# Altium schematic symbol library ZZQ_Schlib.SchLib: 86 symbols (part 2 of 3)
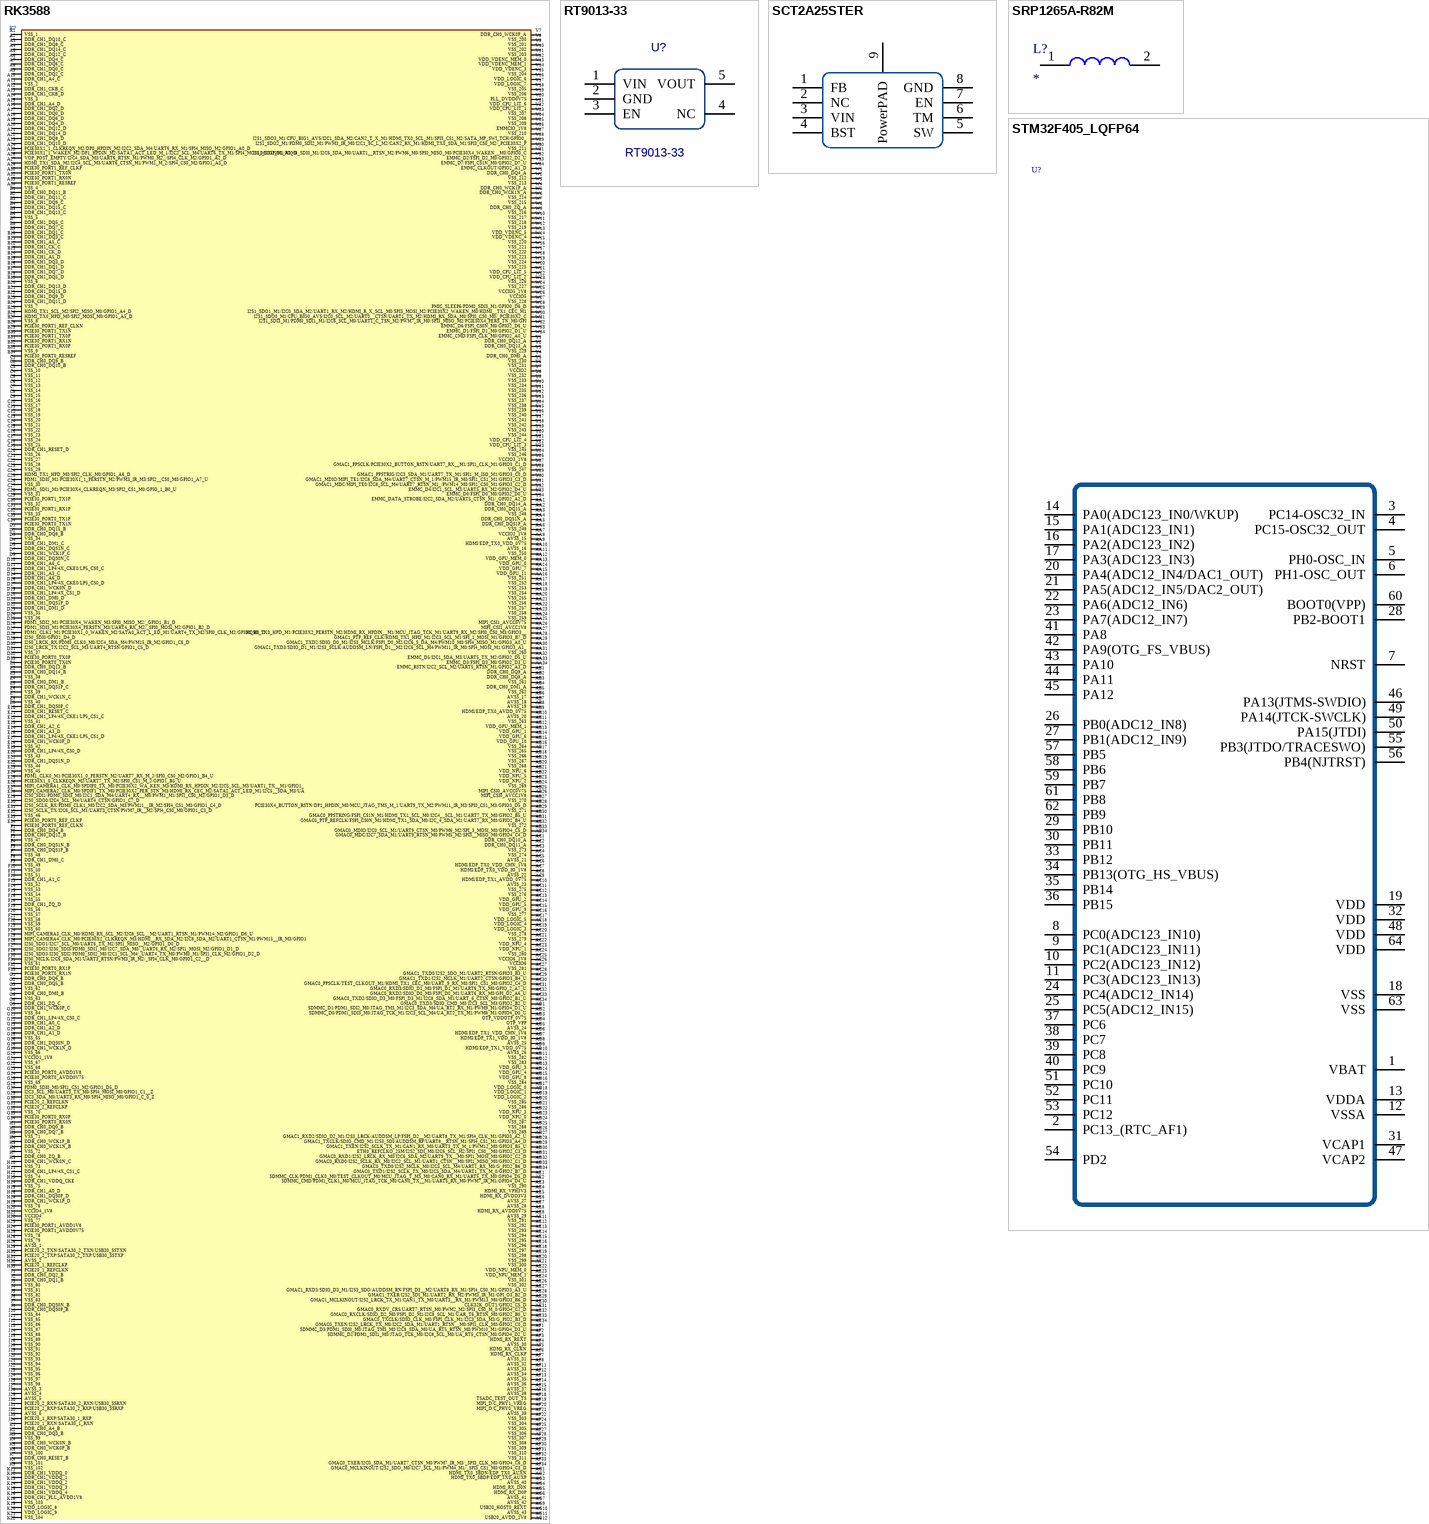
[diagram p9: symbols RK3588 to STM32F405_LQFP64]

## RK3588
designator IC?
Integrated Circuit; Manufacturer_Name: Rockchip; Manufacturer_Part_Number: RK3588; Description: low power; Datasheet Link: https://www.cnx-software.com/pdf/Rockchip%C2%A0RK3588%C2%A0Datasheet%C2%A0V0.1-20210727.pdf; Height: 1.89mm
footprint BGA1088C65P34X34_2300X2300X189
pins: A1 VSS_1, A2 DDR_CH1_DQ10_C, A3 DDR_CH1_DQ8_C, A4 DDR_CH1_DQ14_C, A5 DDR_CH1_DQ12_C, A6 DDR_CH1_DQ4_C, A7 DDR_CH1_DQ6_C, A8 DDR_CH1_DQ0_C, A9 DDR_CH1_DQ2_C, A10 DDR_CH1_A4_C, A11 VSS_2, A12 DDR_CH1_CKB_C, A13 DDR_CH1_CKB_D, A14 VSS_3, A15 DDR_CH1_A4_D, A16 DDR_CH1_DQ2_D, A17 DDR_CH1_DQ0_D, A18 DDR_CH1_DQ6_D, A19 DDR_CH1_DQ4_D, A20 DDR_CH1_DQ12_D, A21 DDR_CH1_DQ14_D, A22 DDR_CH1_DQ8_D, A23 DDR_CH1_DQ10_D, A24 PCIE30X1_1_CLKREQN_M2/DP0_HPDIN_M2/I2C2_SDA_M4/UART6_RX_M1/SPI4_MISO_M2/GPIO1_A0_D, A25 PCIE30X1_1_WAKEN_M2/DP1_HPDIN_M2/SATA1_ACT_LED_M_1/I2C2_SCL_M4/UART6_TX_M1/SPI4_MOSI_M2/GPIO1_A1_D, A26 VOP_POST_EMPTY/I2C4_SDA_M3/UART6_RTSN_M1/PWM0_M2_/SPI4_CLK_M2/GPIO1_A2_D, A27 HDMI_TX1_SDA_M2/I2C4_SCL_M3/UART6_CTSN_M1/PWM1_M_2/SPI4_CS0_M2/GPIO1_A3_D, A28 PCIE30_PORT1_REF_CLKP, A30 PCIE30_PORT1_TX0N, A32 PCIE30_PORT1_RX0N, A33 PCIE30_PORT1_RESREF, A34 VSS_4, AA1 DDR_CH0_DQ14_A, AA2 DDR_CH0_DQ15_A, AA3 VSS_248, AA4 DDR_CH0_DQS1N_A, AA5 DDR_CH0_DQS1P_A, AA6 VSS_249, AA7 VCCIO2_1V8, AA8 AVSS_15, AA9 HDMI/EDP_TX0_VDD_0V75, AA10 AVSS_16, AA11 VSS_250, AA12 VDD_GPU_MEM_0, AA13 VDD_GPU_0, AA14 VDD_GPU_7, AA15 VDD_GPU_11, AA16 VSS_251, AA17 VSS_252, AA18 VSS_253, AA19 VSS_254, AA20 VSS_255, AA21 VSS_256, AA22 VSS_257, AA23 VSS_258, AA24 VSS_259, AA25 MIPI_CSI1_AVCC0V75, AA26 MIPI_CSI1_AVCC1V8, AA27 HDMI_TX0_HPD_M1/PCIE30X2_PERSTN_M2/HDMI_RX_HPDIN__M1/MCU_JTAG_TCK_M1/UART9_RX_M2/SPI0_CS0_M3/GPIO3__, AA28 GMAC1_PTP_REF_CLK/HDMI_TX1_HPD_M1/I2C3_SCL_M1/SPI_1_MOSI_M1/GPIO3_B7_D, AA29 GMAC1_TXD2/SDIO_D0_M1/I2S3_MCLK/FSPI_D0_M2/I2C6_S_DA_M4/PWM10_M0/SPI4_MISO_M1/GPIO3_A0_U, AA30 GMAC1_TXD3/SDIO_D1_M1/I2S3_SCLK/AUDDSM_LN/FSPI_D1__M2/I2C6_SCL_M4/PWM11_IR_M0/SPI4_MOSI_M1/GPIO3_A1_, AA31 VSS_260, AA32 EMMC_D5/I2C1_SDA_M3/UART5_TX_M2/GPIO2_D5_U, AA33 EMMC_D3/FSPI_D3_M0/GPIO2_D3_U, AA34 EMMC_RSTN/I2C2_SCL_M2/UART5_RTSN_M1/GPIO2_A3_D, AB1 DDR_CH0_DQ9_A, AB2 DDR_CH0_DQ8_A, AB3 VSS_261, AB4 DDR_CH0_DM1_A, AB5 VSS_262, AB6 AVSS_17, AB7 AVSS_18, AB8 AVSS_19, AB9 HDMI/EDP_TX0_AVDD_0V75, AB10 AVSS_20, AB11 VSS_263, AB12 VDD_GPU_MEM_1, AB13 VDD_GPU_1, AB14 VDD_GPU_6, AB15 VDD_GPU_10, AB16 VSS_264, AB17 VSS_265, AB18 VSS_266, AB19 VSS_267, AB20 VSS_268, AB21 VDD_NPU_6, AB22 VDD_NPU_5, AB23 VDD_NPU_2, AB24 VSS_269, AB25 MIPI_CSI0_AVCC0V75, AB26 MIPI_CSI0_AVCC1V8, AB27 VSS_270, AB28 PCIE30X4_BUTTON_RSTN/DP1_HPDIN_M0/MCU_JTAG_TMS_M_1/UART9_TX_M2/PWM11_IR_M3/SPI0_CS1_M3/GPIO3_D5_D, AB29 VSS_271, AB30 GMAC0_PPSTRING/FSPI_CS1N_M1/HDMI_TX1_SCL_M0/I2C4__SCL_M1/UART7_TX_M0/GPIO2_B5_U, AB31 GMAC0_PTP_REFCLK/FSPI_CS0N_M1/HDMI_TX1_SDA_M0/I2C_4_SDA_M1/UART7_RX_M0/GPIO2_B4_U, AB32 VSS_272, AB33 GMAC0_MDIO/I2C0_SCL_M1/UART9_CTSN_M0/PWM6_M2/SPI_3_MOSI_M0/GPIO4_C5_D, AB34 GMAC0_MDC/I2C7_SDA_M1/UART9_RTSN_M0/PWM5_M2/SPI3__MISO_M0/GPIO4_C4_D, AC1 DDR_CH0_DQ10_A, AC2 DDR_CH0_DQ11_A, AC3 VSS_273, AC4 VSS_274, AC5 AVSS_21, AC6 HDMI/EDP_TX0_VDD_CMN_1V8, AC7 HDMI/EDP_TX0_VDD_IO_1V8, AC8 AVSS_22, AC9 HDMI/EDP_TX1_AVDD_0V75, AC10 AVSS_23, AC11 VSS_275, AC12 VSS_276, AC13 VDD_GPU_2, AC14 VDD_GPU_5, AC15 VDD_GPU_9, AC16 VSS_277, AC17 VDD_LOGIC_5, AC18 VDD_LOGIC_4, AC19 VDD_LOGIC_3, AC20 VSS_278, AC21 VSS_279, AC22 VDD_NPU_4, AC23 VDD_NPU_1, AC24 VSS_280, AC25 VCCIO6_1V8, AC26 VCCIO6, AC27 VSS_281, AC28 GMAC1_TXD0/I2S2_SDO_M1/UART2_RTSN/GPIO3_B3_U, AC29 GMAC1_TXD1/I2S2_MCLK_M1/UART2_CTSN/GPIO3_B4_U, AC30 GMAC0_PPSCLK/TEST_CLKOUT_M1/HDMI_TX1_CEC_M0/UART_9_RX_M0/SPI1_CS1_M0/GPIO2_C4_D, AC31 GMAC0_RXD3/SDIO_D1_M0/FSPI_D1_M1/UART6_TX_M0/GPIO_2_A7_U, AC32 GMAC0_RXD2/SDIO_D0_M0/FSPI_D0_M1/UART6_RX_M0/GPI_O2_A6_U, AC33 GMAC0_TXD2/SDIO_D3_M0/FSPI_D3_M1/I2C8_SDA_M1/UART_6_CTSN_M0/GPIO2_B1_U, AC34 GMAC0_TXD3/SDIO_CMD_M0/I2C3_SCL_M3/GPIO2_B2_U, AD1 SDMMC_D1/PDM1_SDI2_M0/JTAG_TMS_M1/I2C3_SDA_M4/UA_RT2_RX_M1/PWM9_M1/GPIO4_D1_U, AD2 SDMMC_D0/PDM1_SDI3_M0/JTAG_TCK_M1/I2C3_SCL_M4/UA_RT2_TX_M1/PWM8_M1/GPIO4_D0_U, AD3 OTP_VDDOTP_0V75, AD4 OTP_VPP, AD5 AVSS_24, AD6 HDMI/EDP_TX1_VDD_CMN_1V8, AD7 HDMI/EDP_TX1_VDD_IO_1V8, AD8 AVSS_25, AD9 HDMI/EDP_TX1_VDD_0V75, AD10 AVSS_26, AD11 VSS_282, AD12 VSS_283, AD13 VDD_GPU_3, AD14 VDD_GPU_4, AD15 VDD_GPU_8, AD16 VSS_284, AD17 VDD_LOGIC_0, AD18 VDD_LOGIC_1, AD19 VDD_LOGIC_2, AD20 VSS_285, AD21 VSS_286, AD22 VDD_NPU_3, AD23 VDD_NPU_0, AD24 VSS_287, AD25 VSS_288, AD26 VSS_289, AD27 GMAC1_RXD2/SDIO_D2_M1/I2S3_LRCK/AUDDSM_LP/FSPI_D2__M2/UART8_TX_M1/SPI4_CLK_M1/GPIO3_A2_U, AD28 GMAC1_TXCLK/SDIO_CMD_M1/I2S3_SDI/AUDDSM_RP/UART8__RTSN_M1/SPI4_CS1_M1/GPIO3_A4_D, AD29 GMAC1_TXEN/I2S2_SCLK_TX_M1/CAN1_RX_M0/UART3_TX_M_1/PWM12_M0/GPIO3_B5_U, AD30 ETH0_REFCLKO_25M/I2S2_SDI_M0/I2C6_SCL_M2/SPI1_CS0__M0/GPIO2_C3_D, AD31 GMAC0_RXD1/I2S2_LRCK_RX_M0/I2C6_SDA_M2/UART9_TX__M0/SPI1_MOSI_M0/GPIO2_C2_D, AD32 GMAC0_RXD0/I2S2_SCLK_RX_M0/I2C2_SCL_M1/UART1_CTSN__M0/SPI1_MISO_M0/GPIO2_C1_D, AD33 GMAC0_TXD0/I2S2_MCLK_M0/I2C5_SCL_M4/UART1_RX_M0/G_PIO2_B6_D, AD34 GMAC0_TXD1/I2S2_SCLK_TX_M0/I2C5_SDA_M4/UART1_TX_M_0/GPIO2_B7_D, AE1 SDMMC_CLK/PDM1_CLK0_M0/TEST_CLKOUT_M0/MCU_JTAG_T_MS_M0/CAN0_RX_M1/UART5_TX_M0/GPIO4_D5_D, AE2 SDMMC_CMD/PDM1_CLK1_M0/MCU_JTAG_TCK_M0/CAN0_TX__M1/UART5_RX_M0/PWM7_IR_M1/GPIO4_D4_U, AE3 VSS_290, AE4 HDMI_RX_VPH3V3, AE5 HDMI_RX_DVDD3V3, AE6 AVSS_27, AE7 AVSS_28, AE8 HDMI_RX_AVDD0V75, AE9 AVSS_29, AE11 VSS_291, AE12 VSS_292, AE13 VSS_293, AE14 VSS_294, AE15 VSS_295, AE16 VSS_296, AE18 VSS_297, AE19 VSS_298, AE20 VSS_299, AE21 VSS_300, AE22 VDD_NPU_MEM_0, AE23 VDD_NPU_MEM_1, AE24 VSS_301, AE26 VSS_302, AE27 GMAC1_RXD3/SDIO_D3_M1/I2S3_SDO/AUDDSM_RN/FSPI_D3__M2/UART8_RX_M1/SPI4_CS0_M1/GPIO3_A3_U, AE28 GMAC1_TXER/I2S2_SDI_M1/UART2_RX_M2/PWM3_IR_M1/GPI_O3_B2_D, AE29 GMAC1_MCLKINOUT/I2S2_LRCK_TX_M1/CAN1_TX_M0/UART3__RX_M1/PWM13_M0/GPIO3_B6_D, AE30 CLK32K_OUT1/GPIO2_C5_D, AE31 GMAC0_RXDV_CRS/UART7_RTSN_M0/PWM2_M2/SPI3_CS0_M_0/GPIO4_C2_D, AE32 GMAC0_RXCLK/SDIO_D2_M0/FSPI_D2_M1/I2C8_SCL_M1/UAR_T6_RTSN_M0/GPIO2_B0_U, AE33 GMAC0_TXCLK/SDIO_CLK_M0/FSPI_CLK_M1/I2C3_SDA_M3/G_PIO2_B3_D, AE34 GMAC0_TXEN/I2S2_LRCK_TX_M0/I2C2_SDA_M1/UART1_RTSN__M0/SPI1_CLK_M0/GPIO2_C0_D, AF1 SDMMC_D3/PDM1_SDI0_M0/JTAG_TMS_M0/I2C8_SDA_M0/UA_RT5_RTSN_M0/PWM10_M1/GPIO4_D3_U, AF2 SDMMC_D2/PDM1_SDI1_M0/JTAG_TCK_M0/I2C8_SCL_M0/UA_RT5_CTSN_M0/GPIO4_D2_U, AF3 HDMI_RX_REXT, AF4 AVSS_30, AF5 HDMI_RX_CLKN, AF6 HDMI_RX_CLKP, AF7 AVSS_31, AF8 AVSS_32, AF11 AVSS_33, AF12 AVSS_34, AF13 AVSS_35, AF14 AVSS_36, AF15 AVSS_37, AF16 AVSS_38, AF18 TSADC_TEST_OUT_TS, AF19 MIPI_D/C_PHY1_VREG, AF20 MIPI_D/C_PHY0_VREG, AF21 AVSS_39, AF22 VSS_303, AF24 VSS_304, AF25 VSS_305, AF27 VSS_306, AF28 VSS_307, AF29 VSS_308, AF30 VSS_309, AF31 VSS_310, AF32 VSS_311, AF33 GMAC0_TXER/I2C0_SDA_M1/UART7_CTSN_M0/PWM7_IR_M3/_SPI3_CLK_M0/GPIO4_C6_D, AF34 GMAC0_MCLKINOUT/I2S2_SDO_M0/I2C7_SCL_M1/PWM4_M1/_SPI3_CS1_M0/GPIO4_C3_D, AG1 HDMI_TX0_SBDN/EDP_TX0_AUXN, AG2 HDMI_TX0_SBDP/EDP_TX0_AUXP, AG3 AVSS_40, AG4 HDMI_RX_D0N, AG5 HDMI_RX_D0P, AG6 AVSS_41, AG7 AVSS_42, AG9 USB20_HOST0_REXT, AG10 AVSS_43, AG11 USB20_AVDD_1V8, AG12 AVSS_44, AG13 TYPEC1_DP1_VDDH_1V8, AG14 TYPEC0_DP0_VDDH_1V8, AG15 AVSS_45, AG16 TYPEC1_DP1_REXT, AG18 AVSS_46, AG19 MIPI_D/C_PHY1_VDD, AG20 MIPI_D/C_PHY0_VDD, AG21 AVSS_47, AG22 AVSS_48, AG23 CIF_D13/PCIE20X1_2_PERSTN_M0/HDMI_RX_CEC_M1/UART4__TX_M1/PWM9_M2/SPI0_MISO_M3/GPIO3_D1_D, AG24 CIF_D15/PCIE30X2_WAKEN_M2/HDMI_RX_SDA_M1/I2C7_SDA__M2/UART9_CTSN_M2/PWM10_M2/SPI0_CLK_M3/GPIO3_D3__D, AG25 CIF_D14/PCIE30X2_CLKREQN_M2/HDMI_RX_SCL_M1/I2C7_S_CL_M2/UART9_RTSN_M2/SPI0_MOSI_M3/GPIO3_D2_D, AG26 CIF_D10/PCIE30X4_PERSTN_M2/HDMI_TX1_SCL_M1/SPI3_MI_SO_M3/GPIO3_C6_U, AG28 GMAC1_RXD1/I2S2_SCLK_RX_M1/MIPI_CAMERA3_CLK_M1/P_WM9_M0/GPIO3_B0_U, AG29 GMAC1_RXD0/MIPI_CAMERA2_CLK_M1/PWM8_M0/GPIO3_A7__U, AG30 VSS_312, AG31 MIPI_CSI1_D0P, AG32 MIPI_CSI1_D0N, AG33 MIPI_CSI0_D0P, AG34 MIPI_CSI0_D0N, AH2 HDMI_TX0_D3N/EDP_TX0_D3N, AH3 HDMI_TX0_D3P/EDP_TX0_D3P, AH4 AVSS_49, AH5 HDMI_RX_D1N, AH6 HDMI_RX_D1P, AH8 AVSS_50, AH9 USB20_HOST1_REXT, AH10 USB20_DVDD_0V75, AH11 AVSS_51, AH12 AVSS_52, AH13 TYPEC1_DP1_VDD_0V85, AH14 TYPEC0_DP0_VDDA_0V85, AH15 AVSS_53, AH16 TYPEC0_DP0_REXT, AH18 SARADC_AVDD_1V8, AH19 MIPI_D/C_PHY1_VDD_1V2, AH20 MIPI_D/C_PHY0_VDD_1V2, AH21 AVSS_54, AH22 AVSS_55, AH23 AVSS_56, AH24 CIF_D12/PCIE20X1_2_WAKEN_M0/HDMI_TX0_SDA_M2/I2C5__SDA_M0/UART4_RX_M1/PWM8_M2/SPI3_CLK_M3/GPIO3_D0__U, AH25 CIF_D9/FSPI_CS1N_M2/PCIE30X4_WAKEN_M2/HDMI_TX1_SDA_M1/CAN2_TX_M0/UART5_RX_M1/SPI3_CS1_M3/GPIO3_C5_U, AH26 CIF_D8/FSPI_CS0N_M2/PCIE30X4_CLKREQN_M2/HDMI_TX1_C_EC_M2/CAN2_RX_M0/UART5_TX_M1/SPI3_CS0_M3/GPIO3_C4, AH27 ETH1_REFCLKO_25M/MIPI_CAMERA1_CLK_M1/I2C4_SCL_M0/_GPIO3_A6_D, AH29 GMAC1_RXDV_CRS/I2S2_LRCK_RX_M1/MIPI_CAMERA4_CLK__M1/UART2_TX_M2/PWM2_M1/GPIO3_B1_D, AH30 GMAC1_RXCLK/SDIO_CLK_M1/MIPI_CAMERA0_CLK_M1/FSPI__CLK_M2/I2C4_SDA_M0/UART8_CTSN_M1/GPIO3_A5_D, AH31 MIPI_CSI1_D1P, AH32 MIPI_CSI1_D1N, AH33 MIPI_CSI0_D1P, AH34 MIPI_CSI0_D1N, AJ1 HDMI_TX0_D0N/EDP_TX0_D0N, AJ2 HDMI_TX0_D0P/EDP_TX0_D0P, AJ3 AVSS_57, AJ4 HDMI_RX_D2N, AJ5 HDMI_RX_D2P, AJ7 AVSS_58, AJ8 AVSS_59, AJ9 AVSS_60, AJ10 USB20_AVDD_3V3, AJ11 AVSS_61, AJ12 AVSS_62, AJ13 TYPEC1_DP1_VDDA_0V85, AJ14 TYPEC0_DP0_VDD_0V85, AJ15 AVSS_63, AJ16 AVSS_64, AJ18 AVSS_65, AJ19 MIPI_D/C_PHY1_VDD_1V8, AJ20 MIPI_D/C_PHY0_VDD_1V8, AJ21 AVSS_66, AJ22 AVSS_67, AJ23 AVSS_68, AJ24 CIF_D11/PCIE20X1_2_CLKREQN_M0/HDMI_TX0_SCL_M2/I2C5__SCL_M0/SPI3_MOSI_M3/GPIO3_C7_U, AJ25 BT1120_D14/PCIE20X1_2_WAKEN_M1/HDMI_TX0_SDA_M0/I2_C8_SCL_M3/SPI3_CS0_M1/GPIO4_C0_U, AJ26 BT1120_D11/PCIE30X4_WAKEN_M1/HDMI_RX_CEC_M0/SATA1__ACT_LED_M0/UART9_RX_M1/PWM12_M1/SPI3_MISO_M1/GPI_, AJ27 BT1120_D12/PCIE30X4_PERSTN_M1/HDMI_RX_HPDIN_M0/SA_TA0_ACT_LED_M0/I2C5_SCL_M1/PWM13_M1/SPI3_MOSI_M1/_, AJ28 BT1120_D13/PCIE20X1_2_CLKREQN_M1/HDMI_TX0_SCL_M0/I_2C5_SDA_M1/SPI3_CLK_M1/GPIO4_B7_U, AJ30 VSS_313, AJ31 MIPI_CSI1_CLK0P, AJ32 MIPI_CSI1_CLK0N, AJ33 MIPI_CSI0_CLK0P, AJ34 MIPI_CSI0_CLK0N, AK2 HDMI_TX0_D1N/EDP_TX0_D1N, AK3 HDMI_TX0_D1P/EDP_TX0_D1P, AK4 AVSS_69, AK5 AVSS_70, AK6 USB20_HOST0_DP, AK7 AVSS_71, AK8 TYPEC1_USB20_OTG_ID, AK9 TYPEC1_USB20_OTG_DP, AK10 AVSS_72, AK11 AVSS_73, AK12 AVSS_74, AK13 AVSS_75, AK14 AVSS_76, AK15 SARADC_IN5, AK16 SARADC_IN2, AK17 SARADC_IN7, AK18 MIPI_DPHY1_RX_D0P/MIPI_CPHY1_RX_TRIO0_B, AK19 MIPI_DPHY1_RX_D1P/MIPI_CPHY1_RX_TRIO1_A, AK20 MIPI_DPHY1_RX_CLKP/MIPI_CPHY1_RX_TRIO1_C, AK21 MIPI_DPHY1_RX_D2P/MIPI_CPHY1_RX_TRIO2_B, AK22 MIPI_DPHY1_RX_D3P/NO_USE, AK23 AVSS_77, AK24 BT1120_D15/SPDIF1_TX_M2/PCIE20X1_2_PERSTN_M1/HDMI__TX0_CEC_M0/I2C8_SDA_M3/PWM6_M1/SPI3_CS1_M1/GPIO4_, AK25 CIF_HREF/BT1120_D8/I2S1_SDO1_M0/PCIE30X1_1_BUTTON__RSTN/I2C7_SCL_M3/UART8_RTSN_M0/PWM14_M1/SPI0_CS0_, AK26 CIF_CLKIN/BT1120_CLKOUT/I2S1_SDI3_M0/PCIE30X2_PERST_N_M1/I2C6_SDA_M3/UART8_TX_M0/SPI2_CS1_M1/GPIO4_B, AK27 CIF_D5/BT1120_D5/I2S1_SDI0_M0/PCIE30X1_0_PERSTN_M1/_I2C3_SDA_M2/UART3_TX_M2/SPI2_MOSI_M1/GPIO4_A5_D, AK28 VSS_314_1, AK29 VSS_314_2, AK30 CIF_D0/BT1120_D0/I2S1_MCLK_M0/PCIE30X1_1_CLKREQN_M_1/UART9_RTSN_M1/SPI0_MISO_M1/GPIO4_A0_D, AK31 MIPI_CSI1_D2P, AK32 MIPI_CSI1_D2N, AK33 MIPI_CSI0_D2P, AK34 MIPI_CSI0_D2N, AL1 HDMI_TX0_D2N/EDP_TX0_D2N, AL2 HDMI_TX0_D2P/EDP_TX0_D2P, AL3 AVSS_78, AL4 AVSS_79, AL5 AVSS_80, AL6 USB20_HOST0_DM, AL7 USB20_HOST1_DP, AL8 TYPEC1_USB20_VBUSDET, AL9 TYPEC1_USB20_OTG_DM, AL10 TYPEC1_SBU1/DP1_AUXP, AL11 AVSS_81, AL12 TYPEC0_USB20_OTG_DP, AL13 AVSS_82, AL14 TYPEC0_USB20_OTG_ID, AL15 TYPEC0_SBU1/DP0_AUXP, AL16 SARADC_IN1, AL17 SARADC_IN6, AL18 MIPI_DPHY1_RX_D0N/MIPI_CPHY1_RX_TRIO0_A, AL19 MIPI_DPHY1_RX_D1N/MIPI_CPHY1_RX_TRIO0_C, AL20 MIPI_DPHY1_RX_CLKN/MIPI_CPHY1_RX_TRIO1_B, AL21 MIPI_DPHY1_RX_D2N/MIPI_CPHY1_RX_TRIO2_A, AL22 MIPI_DPHY1_RX_D3N/MIPI_CPHY1_RX_TRIO2_C, AL23 AVSS_83, AL24 MIPI_CAMERA0_CLK_M0/SPDIF1_TX_M1/I2S1_SDO0_M0/PCIE_30X1_0_BUTTON_RSTN/SATA2_ACT_LED_M0/I2C6_SCL_M3/U, AL25 VSS_316, AL26 CIF_CLKOUT/BT1120_D10/I2S1_SDO3_M0/PCIE30X4_CLKREQ_N_M1/DP0_HPDIN_M0/SPDIF0_TX_M1/UART9_TX_M1/PWM11_, AL27 CIF_D6/BT1120_D6/I2S1_SDI1_M0/PCIE30X2_CLKREQN_M1/I_2C5_SCL_M2/UART3_RX_M2/SPI2_CLK_M1/GPIO4_A6_D, AL28 CIF_D4/BT1120_D4/I2S1_LRCK_RX_M0/PCIE30X1_0_WAKEN__M1/I2C3_SCL_M2/UART0_RX_M2/SPI2_MISO_M1/GPIO4_A4_, AL29 CIF_D3/BT1120_D3/I2S1_SCLK_RX_M0/PCIE30X1_0_CLKREQ_N_M1/UART0_TX_M2/GPIO4_A3_D, AL30 CIF_D1/BT1120_D1/I2S1_SCLK_TX_M0/PCIE30X1_1_WAKEN__M1/UART9_CTSN_M1/SPI0_MOSI_M1/GPIO4_A1_D, AL31 MIPI_CSI1_D3P, AL32 MIPI_CSI1_D3N, AL33 MIPI_CSI0_D3P, AL34 MIPI_CSI0_D3N, AM2 HDMI/EDP_TX0_REXT, AM3 HDMI_TX1_D3P/EDP_TX1_D3P, AM4 AVSS_84, AM5 HDMI_TX1_D1P/EDP_TX1_D1P, AM7 USB20_HOST1_DM, AM8 AVSS_85, AM9 AVSS_86, AM10 TYPEC1_SBU2/DP1_AUXN, AM12 TYPEC0_USB20_OTG_DM, AM14 TYPEC0_USB20_VBUSDET, AM15 TYPEC0_SBU2/DP0_AUXN, AM16 SARADC_IN0_BOOT, AM17 SARADC_IN4, AM18 AVSS_87, AM20 AVSS_88, AM22 AVSS_89, AM23 AVSS_90, AM24 AVSS_91, AM25 CIF_VSYNC/BT1120_D9/I2S1_SDO2_M0/PCIE20X1_2_BUTTON__RSTN/I2C7_SDA_M3/UART8_CTSN_M0/PWM15_IR_M1/CAN1_, AM26 AVSS_92, AM27 CIF_D7/BT1120_D7/I2S1_SDI2_M0/PCIE30X2_WAKEN_M1/I2_C5_SDA_M2/SPI2_CS0_M1/GPIO4_A7_D, AM28 AVSS_93, AM29 CIF_D2/BT1120_D2/I2S1_LRCK_TX_M0/PCIE30X1_1_PERSTN__M1/SPI0_CLK_M1/GPIO4_A2_D, AM30 VSS_317, AM31 MIPI_CSI1_CLK1P, AM32 MIPI_CSI1_CLK1N, AM33 MIPI_CSI0_CLK1P, AM34 MIPI_CSI0_CLK1N, AN1 HDMI/EDP_TX1_REXT, AN2 HDMI_TX1_SBDP/EDP_TX1_AUXP, AN3 HDMI_TX1_D3N/EDP_TX1_D3N, AN4 HDMI_TX1_D0P/EDP_TX1_D0P, AN5 HDMI_TX1_D1N/EDP_TX1_D1N, AN6 HDMI_TX1_D2P/EDP_TX1_D2P, AN7 AVSS_94, AN8 TYPEC1_SSRX1P/DP1_TX0P, AN9 TYPEC1_SSTX1N/DP1_TX1N, AN10 TYPEC1_SSRX2P/DP1_TX2P, AN11 TYPEC1_SSTX2N/DP1_TX3N, AN12 AVSS_95, AN13 TYPEC0_SSRX1P/DP0_TX0P, AN14 TYPEC0_SSTX1N/DP0_TX1N, AN15 TYPEC0_SSRX2P/DP0_TX2P, AN16 TYPEC0_SSTX2N/DP0_TX3N, AN17 SARADC_IN3, AN18 MIPI_DPHY1_TX_D0P/MIPI_CPHY1_TX_TRIO0_B, AN19 MIPI_DPHY1_TX_D1P/MIPI_CPHY1_TX_TRIO1_A, AN20 MIPI_DPHY1_TX_CLKP/MIPI_CPHY1_TX_TRIO1_C, AN21 MIPI_DPHY1_TX_D2P/MIPI_CPHY1_TX_TRIO2_B, AN22 MIPI_DPHY1_TX_D3P/NO_USE, AN23 AVSS_96, AN24 MIPI_DPHY0_TX_D0P/MIPI_CPHY0_TX_TRIO0_B, AN25 MIPI_DPHY0_TX_D1P/MIPI_CPHY0_TX_TRIO1_A, AN26 MIPI_DPHY0_TX_CLKP/MIPI_CPHY0_TX_TRIO1_C, AN27 MIPI_DPHY0_TX_D2P/MIPI_CPHY0_TX_TRIO2_B, AN28 MIPI_DPHY0_TX_D3P/NO_USE, AN29 MIPI_DPHY0_RX_D0P/MIPI_CPHY0_RX_TRIO0_B, AN30 MIPI_DPHY0_RX_D1P/MIPI_CPHY0_RX_TRIO1_A, AN31 AVSS_97, AN32 MIPI_DPHY0_RX_CLKP/MIPI_CPHY0_RX_TRIO1_C, AN33 MIPI_DPHY0_RX_D2P/MIPI_CPHY0_RX_TRIO2_B, AN34 MIPI_DPHY0_RX_D3P/NO_USE, AP1 AVSS_98, AP2 HDMI_TX1_SBDN/EDP_TX1_AUXN, AP4 HDMI_TX1_D0N/EDP_TX1_D0N, AP6 HDMI_TX1_D2N/EDP_TX1_D2N, AP7 TYPEC1_USB20_OTG1_REXT, AP8 TYPEC1_SSRX1N/DP1_TX0N, AP9 TYPEC1_SSTX1P/DP1_TX1P, AP10 TYPEC1_SSRX2N/DP1_TX2N, AP11 TYPEC1_SSTX2P/DP1_TX3P, AP12 TYPEC0_USB20_OTG0_REXT, AP13 TYPEC0_SSRX1N/DP0_TX0N, AP14 TYPEC0_SSTX1P/DP0_TX1P, AP15 TYPEC0_SSRX2N/DP0_TX2N, AP16 TYPEC0_SSTX2P/DP0_TX3P, AP17 AVSS_99, AP18 MIPI_DPHY1_TX_D0N/MIPI_CPHY1_TX_TRIO0_A, AP19 MIPI_DPHY1_TX_D1N/MIPI_CPHY1_TX_TRIO0_C, AP20 MIPI_DPHY1_TX_CLKN/MIPI_CPHY1_TX_TRIO1_B, AP21 MIPI_DPHY1_TX_D2N/MIPI_CPHY1_TX_TRIO2_A, AP22 MIPI_DPHY1_TX_D3N/MIPI_CPHY1_TX_TRIO2_C, AP23 AVSS_100, AP24 MIPI_DPHY0_TX_D0N/MIPI_CPHY0_TX_TRIO0_A, AP25 MIPI_DPHY0_TX_D1N/MIPI_CPHY0_TX_TRIO0_C, AP26 MIPI_DPHY0_TX_CLKN/MIPI_CPHY0_TX_TRIO1_B, AP27 MIPI_DPHY0_TX_D2N/MIPI_CPHY0_TX_TRIO2_A, AP28 MIPI_DPHY0_TX_D3N/MIPI_CPHY0_TX_TRIO2_C, AP29 MIPI_DPHY0_RX_D0N/MIPI_CPHY0_RX_TRIO0_A, AP30 MIPI_DPHY0_RX_D1N/MIPI_CPHY0_RX_TRIO0_C, AP31 MIPI_DPHY0_RX_CLKN/MIPI_CPHY0_RX_TRIO1_B, AP32 MIPI_DPHY0_RX_D2N/MIPI_CPHY0_RX_TRIO2_A, AP33 MIPI_DPHY0_RX_D3N/MIPI_CPHY0_RX_TRIO2_C, AP34 AVSS_101, B1 DDR_CH0_DQ11_B, B2 DDR_CH1_DQ11_C, B3 DDR_CH1_DQ9_C, B4 DDR_CH1_DQ15_C, B5 DDR_CH1_DQ13_C, B6 VSS_5, B7 DDR_CH1_DQ5_C, B8 DDR_CH1_DQ7_C, B9 DDR_CH1_DQ1_C, B10 DDR_CH1_DQ3_C, B11 DDR_CH1_A5_C, B12 DDR_CH1_CK_C, B13 DDR_CH1_CK_D, B14 DDR_CH1_A5_D, B15 DDR_CH1_DQ3_D, B16 DDR_CH1_DQ1_D, B17 DDR_CH1_DQ7_D, B18 DDR_CH1_DQ5_D, B19 VSS_6, B20 DDR_CH1_DQ13_D, B21 DDR_CH1_DQ15_D, B22 DDR_CH1_DQ9_D, B23 DDR_CH1_DQ11_D, B24 VSS_7, B25 HDMI_TX1_SCL_M2/SPI2_MISO_M0/GPIO1_A4_D, B26 HDMI_TX0_HPD_M0/SPI2_MOSI_M0/GPIO1_A5_D, B27 VSS_8, B28 PCIE30_PORT1_REF_CLKN, B29 PCIE30_PORT1_TX1N, B30 PCIE30_PORT1_TX0P, B31 PCIE30_PORT1_RX1N, B32 PCIE30_PORT1_RX0P, B33 VSS_9, B34 PCIE30_PORT0_RESREF, C1 DDR_CH0_DQ9_B, C2 DDR_CH0_DQ10_B, C3 VSS_10, C4 VSS_11, C5 VSS_12, C6 VSS_13, C7 VSS_14, C8 VSS_15, C9 VSS_16, C10 VSS_17, C11 VSS_18, C12 VSS_19, C13 VSS_20, C14 VSS_21, C15 VSS_22, C16 VSS_23, C17 VSS_24, C18 VSS_25, C19 DDR_CH1_RESET_D, C20 VSS_26, C21 VSS_27, C22 VSS_28, C23 VSS_29, C24 HDMI_TX1_HPD_M0/SPI2_CLK_M0/GPIO1_A6_D, C25 PDM1_SDI0_M1/PCIE30X1_1_PERSTN_M2/PWM3_IR_M3/SPI2__CS0_M0/GPIO1_A7_U, C26 VSS_30, C27 PDM1_SDI1_M1/PCIE30X4_CLKREQN_M3/SPI2_CS1_M0/GPIO_1_B0_U, C28 VSS_31, C29 PCIE30_PORT1_TX1P, C30 VSS_32, C31 PCIE30_PORT1_RX1P, C32 VSS_33, C33 PCIE30_PORT0_TX1P, C34 PCIE30_PORT0_TX1N, D1 DDR_CH0_DQ15_B, D2 DDR_CH0_DQ8_B, D3 VSS_34, D4 DDR_CH1_DM1_C, D5 DDR_CH1_DQS1N_C, D7 DDR_CH1_WCK1P_C, D9 DDR_CH1_DQS0N_C, D10 DDR_CH1_A6_C, D11 DDR_CH1_LP4/4X_CKE0/LP5_CS0_C, D13 DDR_CH1_A3_C, D14 DDR_CH1_A6_D, D16 DDR_CH1_LP4/4X_CKE0/LP5_CS0_D, D17 DDR_CH1_WCK0N_D, D19 DDR_CH1_LP4/4X_CS1_D, D20 DDR_CH1_DM0_D, D21 DDR_CH1_DQS1P_D, D22 DDR_CH1_DM1_D, D23 VSS_35, D24 VSS_36, D25 PDM1_SDI2_M1/PCIE30X4_WAKEN_M3/SPI0_MISO_M2/_GPIO1_B1_D, D26 PDM1_SDI3_M1/PCIE30X4_PERSTN_M3/UART4_RX_M2/_SPI0_MOSI_M2/GPIO1_B2_D, D27 PDM1_CLK1_M1/PCIE30X1_0_WAKEN_M2/SATA0_ACT_L_ED_M1/UART4_TX_M2/SPI0_CLK_M2/GPIO1_B3_D, D28 I2S0_SDI0/GPIO1_D4_D, D29 I2S0_LRCK_RX/PDM0_CLK0_M0/I2C4_SDA_M4/PWM15_IR_M2/GPIO1_C6_D, D30 I2S0_LRCK_TX/I2C2_SCL_M3/UART4_RTSN/GPIO1_C5_D, D31 VSS_37, D32 PCIE30_PORT0_TX0P, D33 PCIE30_PORT0_TX0N, E1 DDR_CH0_DQ13_B, E2 DDR_CH0_DQ14_B, E3 VSS_38, E4 DDR_CH0_DM1_B, E5 DDR_CH1_DQS1P_C, E6 VSS_39, E7 DDR_CH1_WCK1N_C, E8 VSS_40, E9 DDR_CH1_DQS0P_C, E10 DDR_CH1_RESET_C, E11 DDR_CH1_LP4/4X_CKE1/LP5_CS1_C, E12 VSS_41, E13 DDR_CH1_A2_C, E14 DDR_CH1_A3_D, E16 DDR_CH1_LP4/4X_CKE1/LP5_CS1_D, E17 DDR_CH1_WCK0P_D, E18 VSS_42, E19 DDR_CH1_LP4/4X_CS0_D, E20 VSS_43, E21 DDR_CH1_DQS1N_D, E22 VSS_44, E23 VSS_45, E24 PDM1_CLK0_M1/PCIE30X1_0_PERSTN_M2/UART7_RX_M_2/SPI0_CS0_M2/GPIO1_B4_U, E25 PCIE30X1_0_CLKREQN_M2/UART7_TX_M2/SPI0_CS1_M_2/GPIO1_B5_U, E26 MIPI_CAMERA1_CLK_M0/SPDIF0_TX_M0/PCIE30X2_WA_KEN_M3/HDMI_RX_HPDIN_M2/I2C5_SCL_M3/UART1_TX__M1/GPIO1_, E27 MIPI_CAMERA2_CLK_M0/SPDIF1_TX_M0/PCIE30X2_PER_STN_M3/HDMI_RX_CEC_M2/SATA2_ACT_LED_M1/I2C5__SDA_M3/UA, E28 I2S0_SDI1/PDM0_SDI3_M0/I2C1_SDA_M4/UART4_RX__M0/PWM1_M1/SPI1_CS0_M2/GPIO1_D3_D, E29 I2S0_SDO0/I2C4_SCL_M4/UART4_CTSN/GPIO1_C7_D, E30 I2S0_SCLK_RX/PDM0_CLK1_M0/I2C2_SDA_M3/PWM11__IR_M2/SPI4_CS1_M0/GPIO1_C4_D, E31 I2S0_SCLK_TX/I2C6_SCL_M1/UART3_CTSN/PWM7_IR__M2/SPI4_CS0_M0/GPIO1_C3_D, E32 VSS_46, E33 PCIE30_PORT0_REF_CLKP, E34 PCIE30_PORT0_REF_CLKN, F1 DDR_CH0_DQ4_B, F2 DDR_CH0_DQ12_B, F3 VSS_47, F4 DDR_CH0_DQS1N_B, F5 DDR_CH0_DQS1P_B, F7 VSS_48, F8 DDR_CH1_DM0_C, F9 VSS_49, F10 VSS_50, F11 VSS_51, F12 DDR_CH1_A1_C, F13 VSS_52, F14 VSS_53, F15 VSS_54, F16 VSS_55, F18 DDR_CH1_ZQ_D, F19 VSS_56, F20 VSS_57, F21 VSS_58, F22 VSS_59, F23 VSS_60, F24 MIPI_CAMERA3_CLK_M0/HDMI_RX_SCL_M2/I2C8_SCL__M2/UART1_RTSN_M1/PWM14_M2/GPIO1_D6_U, F25 MIPI_CAMERA4_CLK_M0/PCIE30X2_CLKREQN_M3/HDMI__RX_SDA_M2/I2C8_SDA_M2/UART1_CTSN_M1/PWM15__IR_M3/GPIO1, F26 I2S0_SDO1/I2C7_SCL_M0/UART6_TX_M2/SPI1_MISO__M2/GPIO1_D0_D, F27 I2S0_SDO2/I2S0_SDI3/PDM0_SDI1_M0/I2C7_SDA_M0/_UART6_RX_M2/SPI1_MOSI_M2/GPIO1_D1_D, F28 I2S0_SDO3/I2S0_SDI2/PDM0_SDI2_M0/I2C1_SCL_M4/_UART4_TX_M0/PWM0_M1/SPI1_CLK_M2/GPIO1_D2_D, F30 I2S0_MCLK/I2C6_SDA_M1/UART3_RTSN/PWM3_IR_M2/_SPI4_CLK_M0/GPIO1_C2__D, F31 VSS_61, F32 PCIE30_PORT0_RX1P, F33 PCIE30_PORT0_RX1N, G1 DDR_CH0_DQ6_B, G2 DDR_CH0_DQ5_B, G3 VSS_62, G4 DDR_CH0_DM0_B, G6 VSS_63, G8 DDR_CH1_ZQ_C, G9 DDR_CH1_WCK0P_C, G10 VSS_64, G11 DDR_CH1_LP4/4X_CS0_C, G12 DDR_CH1_A0_C, G13 DDR_CH1_A2_D, G14 DDR_CH1_A1_D, G15 VSS_65, G16 DDR_CH1_DQS0N_D, G18 DDR_CH1_WCK1N_D, G19 VSS_66, G20 VCCIO1_1V8, G21 VSS_67, G22 VSS_68, G23 PCIE30_PORT0_AVDD1V8, G24 PCIE30_PORT0_AVDD0V75, G25 VSS_69, G26 PDM0_SDI0_M0/SPI1_CS1_M2/GPIO1_D5_D, G27 I2C3_SCL_M0/UART3_TX_M0/SPI4_MOSI_M0/GPIO1_C1__Z, G29 I2C3_SDA_M0/UART3_RX_M0/SPI4_MISO_M0/GPIO1_C_0_Z, G30 PCIE20_2_REFCLKN, G31 PCIE20_2_REFCLKP, G32 VSS_70, G33 PCIE30_PORT0_RX0P, G34 PCIE30_PORT0_RX0N, H1 DDR_CH0_DQ0_B, H2 DDR_CH0_DQ7_B, H3 VSS_71, H4 DDR_CH0_WCK1P_B, H5 DDR_CH0_WCK1N_B, H6 VSS_72, H7 DDR_CH0_ZQ_B, H9 DDR_CH1_WCK0N_C, H10 VSS_73, H11 DDR_CH1_LP4/4X_CS1_C, H12 VSS_74, H13 DDR_CH1_VDDQ_CKE, H14 VSS_75, H15 DDR_CH1_A0_D, H16 DDR_CH1_DQS0P_D, H18 DDR_CH1_WCK1P_D, H19 VSS_76, H20 VCCIO4_1V8, H21 VCCIO4, H22 VSS_77, H23 PCIE30_PORT1_AVDD1V8, H24 PCIE30_PORT1_AVDD0V75, H25 VSS_78, H26 VSS_79, H28 AVSS_1, H29 PCIE20_2_TXN/SATA30_2_TXN/USB30_SSTXN, H30 PCIE20_2_TXP/SATA30_2_TXP/USB30_SSTXP, H31 AVSS_2, H32 PCIE20_1_REFCLKP, H33 PCIE20_1_REFCLKN, J1 DDR_CH0_DQ2_B, J2 DDR_CH0_DQ1_B, J3 VSS_80, J4 VSS_81, J5 VSS_82, J6 VSS_83, J7 DDR_CH0_DQS0N_B, J8 DDR_CH0_DQS0P_B, J10 VSS_84, J11 VSS_85, J12 VSS_86, J13 VSS_87, J14 VSS_88, J15 VSS_89, J16 VSS_90, J18 VSS_91, J19 VSS_92, J20 VSS_93, J21 VSS_94, J22 VSS_95, J23 VSS_96, J24 VSS_97, J25 VSS_98, J27 AVSS_3, J28 AVSS_4, J29 AVSS_5, J30 PCIE20_2_RXN/SATA30_2_RXN/USB30_SSRXN, J31 PCIE20_2_RXP/SATA30_2_RXP/USB30_SSRXP, J32 AVSS_6, J33 PCIE20_1_RXP/SATA30_1_RXP, J34 PCIE20_1_RXN/SATA30_1_RXN, K1 DDR_CH0_A4_B, K2 DDR_CH0_DQ3_B, K3 VSS_99, K4 DDR_CH0_WCK0N_B, K5 DDR_CH0_WCK0P_B, K6 VSS_100, K7 DDR_CH0_RESET_B, K8 VSS_101, K9 VSS_102, K11 DDR_CH1_VDDQ_0, K12 DDR_CH1_VDDQ_1, K13 DDR_CH1_VDDQ_2, K14 DDR_CH1_VDDQ_3, K15 DDR_CH1_VDDQ_4, K16 DDR_CH1_PLL_AVDD1V8, K18 VSS_103, K19 VDD_LOGIC_8, K20 VDD_LOGIC_9, K21 VSS_104, K22 VSS_105, K23 VDD_CPU_BIG1_9, K24 VDD_CPU_BIG1_0, K26 AVSS_7, K27 PCIE20_SATA30_USB30_2_AVDD_1V8, K28 PCIE20_SATA30_USB30_2_AVDD_0V85, K29 CLK32K_IN/CLK32K_OUT0/GPIO0_B2_U, K30 SPI2_CS0_M2/I2C1_SDA_M1/PWM5_M0/UART0_TX_M1/GPIO0_B1_Z, K31 AVSS_8, K32 AVSS_9, K33 PCIE20_1_TXP/SATA30_1_TXP, K34 PCIE20_1_TXN/SATA30_1_TXN, L1 VSS_106, L2 DDR_CH0_A5_B, L3 VSS_107, L4 DDR_CH0_LP4/4X_CKE1/LP5_CS1_B, L5 DDR_CH0_LP4/4X_CKE0/LP5_CS0_B, L6 VSS_108, L7 DDR_CH0_LP4/4X_CS0_B, L8 DDR_CH0_LP4/4X_CS1_B, L9 VSS_109, L10 DDR_CH0_VDDQ_CK, L11 DDR_CH1_VDD_0, L12 DDR_CH1_VDD_1, L13 DDR_CH1_VDD_2, L14 DDR_CH1_VDD_3, L15 DDR_CH1_PLL_DVDD, L16 DDR_CH1_PLL_AVSS, L17 DDR_CH1_VDD_MIF_0, L18 DDR_CH1_VDD_MIF_1, L19 VSS_110, L20 VSS_111, L21 VSS_112, L22 VSS_113, L23 VDD_CPU_BIG1_8, L24 VDD_CPU_BIG1_1, L25 VSS_114, L26 AVSS_10, L27 PCIE20_SATA30_1_AVDD_1V8, L28 PCIE20_SATA30_1_AVDD_0V85, L29 SPI2_MISO_M2/I2C0_SCL_M0/GPIO0_B3_Z, L30 SPI2_CS1_M2/I2C1_SCL_M1/UART0_RX_M1/GPIO0_B0_Z, L31 AVSS_11, L32 PCIE20_0_REFCLKP, L33 PCIE20_0_REFCLKN, M1 DDR_CH0_CKB_B, M2 DDR_CH0_CK_B, M3 VSS_115, M5 DDR_CH0_A1_B, M6 VSS_116, M7 DDR_CH0_A6_B, M8 DDR_CH0_A0_B, M9 VSS_117, M10 DDR_CH0_VDDQ_0, M11 DDR_CH0_PLL_AVSS, M12 DDR_CH0_PLL_AVDD1V8, M13 DDR_CH1_VDDQ_CK, M14 VSS_118, M15 VSS_119, M16 VDD_CPU_BIG0_0, M17 VDD_CPU_BIG0_9, M18 VSS_120, M19 VDD_CPU_BIG0_MEM_0, M20 VSS_121, M21 VDD_CPU_BIG1_MEM_0, M22 VSS_122, M23 VDD_CPU_BIG1_7, M24 VDD_CPU_BIG1_2, M25 VSS_123, M26 AVSS_12, M27 PCIE20_SATA30_0_AVDD_1V8, M28 PCIE20_SATA30_0_AVDD_0V85, M29 TVSS_D, M30 PMIC_INT_L/GPIO0_A7_U, M31 NPOR_U, M32 AVSS_13, M33 PCIE20_0_TXN/SATA30_0_TXN, M34 PCIE20_0_TXP/SATA30_0_TXP, N1 DDR_CH0_CKB_A, N2 DDR_CH0_CK_A, N3 VSS_124, N4 DDR_CH0_A3_B, N5 DDR_CH0_A2_B, N6 VSS_125, N7 DDR_CH0_LP4/4X_CKE1/LP5_CS1_A, N8 DDR_CH0_VDDQ_CKE, N9 VSS_126, N10 DDR_CH0_VDDQ_1, N11 VSS_127, N12 DDR_CH0_PLL_DVDD, N13 DDR_CH0_VDD_MIF_0, N14 VSS_128, N15 VSS_129, N16 VDD_CPU_BIG0_1, N17 VDD_CPU_BIG0_8, N18 VSS_130, N19 VDD_CPU_BIG0_MEM_1, N20 VSS_131, N21 VDD_CPU_BIG1_MEM_1, N22 VSS_132, N23 VDD_CPU_BIG1_6, N24 VDD_CPU_BIG1_3, N25 VSS_133, N26 VSS_134, N27 OSC_1V8, N28 PMUIO1_1V8, N29 VSS_135, N30 SPI2_MOSI_M2/I2C0_SDA_M0/GPIO0_A6_Z, N31 SPI2_CLK_M2/SDMMC_PWREN/PMU_DEBUG/GPIO0_A5__D, N32 AVSS_14, N33 PCIE20_0_RXP/SATA30_0_RXP, N34 PCIE20_0_RXN/SATA30_0_RXN, P1 VSS_136, P2 DDR_CH0_A5_A, P3 VSS_137, P4 DDR_CH0_A2_A, P5 DDR_CH0_A3_A, P6 VSS_138, P7 DDR_CH0_LP4/4X_CKE0/LP5_CS0_A, P8 VSS_139, P9 VSS_140, P10 DDR_CH0_VDDQ_2, P11 VSS_141, P12 DDR_CH0_VDD_3, P13 DDR_CH0_VDD_MIF_1, P14 VSS_142, P15 VSS_143, P16 VDD_CPU_BIG0_2, P17 VDD_CPU_BIG0_7, P18 VSS_144, P19 VSS_145, P20 VSS_146, P21 VSS_147, P22 VSS_148, P23 VDD_CPU_BIG1_5, P24 VDD_CPU_BIG1_4, P25 VSS_149, P26 VSS_150, P27 PMU_0V75, P28 PMUIO2, P29 I2S1_MCLK_M1/JTAG_TCK_M2/I2C1_SCL_M0/UART2_TX__M0/PCIE30X1_1_CLKREQN_M0/GPIO0_B5_D, P30 I2S1_SDI0_M1/GPU_AVS/UART0_TX_M0/I2C4_SCL_M2/DP1_HPDIN_M1/PWM4_M0/PCIE30X1_0_PERSTN_M0/GPIO0_C5_U, P31 SDMMC_DET/GPIO0_A4_U, P32 TSADC_SHUT_ORG/TSADC_SHUT/GPIO0_A1_Z, P33 REFCLK_OUT/GPIO0_A0_D, P34 VSS_151, R1 DDR_CH0_A4_A, R2 DDR_CH0_DQ3_A, R3 VSS_152, R5 VSS_153, R6 DDR_CH0_LP4/4X_CS0_A, R7 DDR_CH0_LP4/4X_CS1_A, R8 VSS_154, R9 VSS_155, R10 DDR_CH0_VDDQ_3, R11 VSS_156, R12 DDR_CH0_VDD_2, R13 VSS_157, R14 VDD_VDENC_0, R15 VSS_158, R16 VDD_CPU_BIG0_3, R17 VDD_CPU_BIG0_6, R18 VSS_159, R19 VSS_160, R20 VSS_161, R21 VSS_162, R22 VSS_163, R23 VSS_164, R24 VSS_165, R25 VSS_166, R26 VSS_167, R27 PMUIO2_1V8, R28 VSS_168, R29 I2S1_SCLK_TX_M1/JTAG_TMS_M2/I2C1_SDA_M0/UART_2_RX_M0/PCIE30X1_1_WAKEN_M0/GPIO0_B6_D, R30 I2S1_LRCK_RX_M1/PDM0_CLK1_M1/PWM2_M0/UART0__RX_M0/I2C4_SDA_M2/DP0_HPDIN_M1/PCIE30X1_0_WA_KEN_M0/GPIO, R31 PMIC_SLEEP2/GPIO0_A3_D, R32 PMIC_SLEEP1/GPIO0_A2_D, R33 VSS_169, R34 XIN_24M, T1 DDR_CH0_DQ2_A, T2 DDR_CH0_DQ1_A, T3 VSS_170, T4 DDR_CH0_RESET_A, T5 DDR_CH0_A6_A, T6 VSS_171, T7 DDR_CH0_A0_A, T8 DDR_CH0_A1_A, T9 VSS_172, T10 DDR_CH0_VDDQ_4, T11 VSS_173, T12 DDR_CH0_VDD_1, T13 VSS_174, T14 VDD_VDENC_1, T15 VSS_175, T16 VDD_CPU_BIG0_4, T17 VDD_CPU_BIG0_5, T18 VSS_176, T19 VSS_177, T20 VSS_178, T21 VDD_CPU_LIT_MEM_1, T22 VDD_CPU_LIT_MEM_0, T23 VSS_179, T24 VSS_180, T25 VSS_181, T26 VSS_182, T27 VSS_183, T28 I2S1_LRCK_TX_M1/PWM0_M0/I2C2_SCL_M0/CAN0_TX__M0/SPI0_CS1_M0/PCIE30X1_1_PERSTN_M0/GPIO0_B7__D, T29 I2S1_SDI1_M1/NPU_AVS/UART0_RTSN/PWM5_M1/SPI0__CLK_M0/PCIE30X4_CLKREQN_M0/SATA_CP_POD/GPIO_0_C6_U, T30 PMIC_SLEEP5/GPIO0_C3_D, T31 I2S1_SCLK_RX_M1/PDM0_CLK0_M1/PWM1_M0/I2C2_S_DA_M0/CAN0_RX_M0/SPI0_MOSI_M0/PCIE30X1_0_CLKREQN_M0/GPIO, T32 PMIC_SLEEP4/GPIO0_C2_D, T33 VSS_184, T34 XOUT_24M, U1 DDR_CH0_DQ0_A, U2 DDR_CH0_DQ7_A, U3 VSS_185, U4 DDR_CH0_DQS0N_A, U5 DDR_CH0_DQS0P_A, U11 DDR_CH0_VDD_0, U12 VSS_186, U13 VSS_187, U14 VDD_VDENC_2, U15 VSS_188, U16 VSS_189, U17 VSS_190, U18 PLL_AVDD1V8, U19 PLL_AVSS, U20 VSS_191, U21 VDD_CPU_LIT_7, U22 VDD_CPU_LIT_0, U23 VSS_192, U24 VSS_193, U30 VSS_194, U31 VSS_195, U32 PMIC_SLEEP3/GPIO0_C1_D, U33 LITCPU_AVS/SPI3_CLK_M2/GPIO0_D3_U, U34 VSS_196, V1 DDR_CH0_DQ6_A, V2 DDR_CH0_DQ5_A, V3 VSS_197, V4 VSS_198, V5 VSS_199, V6 DDR_CH0_WCK0N_A, V7 DDR_CH0_WCK0P_A, V8 VSS_200, V9 VSS_201, V10 VSS_202, V11 VSS_203, V12 VDD_VDENC_MEM_0, V13 VDD_VDENC_MEM_1, V14 VDD_VDENC_3, V15 VSS_204, V16 VDD_LOGIC_6, V17 VDD_LOGIC_7, V18 VSS_205, V19 VSS_206, V20 PLL_DVDD0V75, V21 VDD_CPU_LIT_6, V22 VDD_CPU_LIT_1, V23 VSS_207, V24 VSS_208, V25 VSS_209, V26 EMMCIO_1V8, V27 VSS_210, V28 I2S1_SDO3_M1/CPU_BIG1_AVS/I2C1_SDA_M2/CAN2_T_X_M1/HDMI_TX0_SCL_M1/SPI3_CS1_M2/SATA_MP_SWI_TCH/GPIO0_, V29 I2S1_SDO2_M1/PDM0_SDI2_M1/PWM3_IR_M0/I2C1_SC_L_M2/CAN2_RX_M1/HDMI_TX0_SDA_M1/SPI3_CS0_M2/_PCIE30X2_P, V30 VSS_211, V31 I2S1_SDI2_M1/PDM0_SDI0_M1/I2C6_SDA_M0/UART1__RTSN_M2/PWM6_M0/SPI0_MISO_M0/PCIE30X4_WAKEN__M0/GPIO0_C, V32 EMMC_D2/FSPI_D2_M0/GPIO2_D2_U, V33 EMMC_D7/FSPI_CS1N_M0/GPIO2_D7_U, V34 EMMC_CLKOUT/GPIO2_A1_D, W1 DDR_CH0_DQ4_A, W2 VSS_212, W3 VSS_213, W4 DDR_CH0_WCK1P_A, W5 DDR_CH0_WCK1N_A, W6 VSS_214, W7 VSS_215, W8 DDR_CH0_ZQ_A, W9 VSS_216, W10 VSS_217, W11 VSS_218, W12 VSS_219, W13 VDD_VDENC_5, W14 VDD_VDENC_4, W15 VSS_220, W16 VSS_221, W17 VSS_222, W18 VSS_223, W19 VSS_224, W20 VSS_225, W21 VDD_CPU_LIT_5, W22 VDD_CPU_LIT_2, W23 VSS_226, W24 VSS_227, W25 VCCIO5_1V8, W26 VCCIO5, W27 VSS_228, W28 PMIC_SLEEP6/PDM0_SDI3_M1/GPIO0_D6_D, W29 I2S1_SDO1_M1/I2C0_SDA_M2/UART1_RX_M2/HDMI_R_X_SCL_M0/SPI3_MOSI_M2/PCIE30X2_WAKEN_M0/HDMI__TX1_CEC_M1, W30 I2S1_SDO0_M1/CPU_BIG0_AVS/I2C0_SCL_M2/UART0__CTSN/UART1_TX_M2/HDMI_RX_SDA_M0/SPI0_CS0_M0/_PCIE30X2_C, W31 I2S1_SDI3_M1/PDM0_SDI1_M1/I2C6_SCL_M0/UART1_C_TSN_M2/PWM7_IR_M0/SPI3_MISO_M2/PCIE30X4_PERS_TN_M0/GPI, W32 EMMC_D6/FSPI_CS0N_M0/GPIO2_D6_U, W33 EMMC_D1/FSPI_D1_M0/GPIO2_D1_U, W34 EMMC_CMD/FSPI_CLK_M0/GPIO2_A0_U, Y1 DDR_CH0_DQ12_A, Y2 DDR_CH0_DQ13_A, Y3 VSS_229, Y4 DDR_CH0_DM0_A, Y5 VSS_230, Y6 VSS_231, Y7 VCCIO2, Y8 VSS_232, Y9 VSS_233, Y10 VSS_234, Y11 VSS_235, Y12 VSS_236, Y13 VSS_237, Y14 VSS_238, Y15 VSS_239, Y16 VSS_240, Y17 VSS_241, Y18 VSS_242, Y19 VSS_243, Y20 VSS_244, Y21 VDD_CPU_LIT_4, Y22 VDD_CPU_LIT_3, Y23 VSS_245, Y24 VSS_246, Y26 VCCIO3_1V8, Y27 GMAC1_PPSCLK/PCIE30X2_BUTTON_RSTN/UART7_RX__M1/SPI1_CLK_M1/GPIO3_C1_D, Y28 VSS_247, Y29 GMAC1_PPSTRIG/I2C3_SDA_M1/UART7_TX_M1/SPI1_M_ISO_M1/GPIO3_C0_D, Y30 GMAC1_MDIO/MIPI_TE1/I2C8_SDA_M4/UART7_CTSN_M_1/PWM15_IR_M0/SPI1_CS1_M1/GPIO3_C3_D, Y31 GMAC1_MDC/MIPI_TE0/I2C8_SCL_M4/UART7_RTSN_M1_/PWM14_M0/SPI1_CS0_M1/GPIO3_C2_D, Y32 EMMC_D4/I2C1_SCL_M3/UART5_RX_M2/GPIO2_D4_U, Y33 EMMC_D0/FSPI_D0_M0/GPIO2_D0_U, Y34 EMMC_DATA_STROBE/I2C2_SDA_M2/UART5_CTSN_M1/_GPIO2_A2_D

## RT9013-33
designator U?
BOM_Manufacturer: RICHTEK; BOM_Manufacturer Part: RT9013-33GB; BOM_Supplier: LCSC; BOM_Supplier Part: C47773; BOM_JLCPCB Part Class: Extended Part; spicePre: U; spiceSymbolName: RT9013-33GB
footprint SOT23-5 (SOT23, 5-Leads, Body 2.9x1.6mm, Pitch 0.95mm, IPC Medium Density                联系卖家 免费查找封装)
pins: 1 VIN, 2 GND, 3 EN, 4 NC, 5 VOUT

## SCT2A25STER
designator U?  (value not drawn)
Manufacturer: SCT(芯洲科技); Add into BOM: yes; Symbol: SCT2A25STER; Device: SCT2A25STER; Supplier: LCSC; Supplier Part: C5124114; Manufacturer Part: SCT2A25STER; JLCPCB Part Class: Extended Part; LCSC Part Name: SCT2A25STER; Supplier Footprint: ESOP-8; Datasheet: https://atta.szlcsc.com/upload/public/pdf/source/20231221/39256AD0E7C1C67CAD8774165E7F7CE4.pdf; Convert to PCB: yes
footprint ESOP-8_L4.9-W3.9-P1.27-LS6.0-BL-EP
pins: 1 FB, 2 NC, 3 VIN, 4 BST, 5 SW, 6 TM, 7 EN, 8 GND, 9 PowerPAD

## SRP1265A-R82M
designator L?
Inductor; Manufacturer_Name: Bourns; Manufacturer_Part_Number: SRP1265A-R82M; Datasheet Link: https://componentsearchengine.com/Datasheets/1/SRP1265A-R82M.pdf; Height: 6.4mm; Mouser Part Number: 652-SRP1265A-R82M; Mouser Price/Stock: https://www.mouser.com/Search/Refine.aspx?Keyword=652-SRP1265A-R82M; Arrow Part Number: SRP1265A-R82M; Arrow Price/Stock: https://www.arrow.com/en/products/srp1265a-r82m/bourns
footprint INDPM135125X640N
pins: 1, 2

## STM32F405_LQFP64
designator U?  (value not drawn)
Name: STM32F40X_LQFP64; Add into BOM: yes; Origin Footprint: lqfp64_pad_mod; Symbol: stm32f40x_lqfp64; Device: STM32F40X_LQFP64; Convert to PCB: yes; NO_CONNECT: yes
footprint LQFP64-10*10 (10x10mm，0.5mm      联系卖家 免费查找封装)
pins: 1 VBAT, 2 PC13_(RTC_AF1), 3 PC14-OSC32_IN, 4 PC15-OSC32_OUT, 5 PH0-OSC_IN, 6 PH1-OSC_OUT, 7 NRST, 8 PC0(ADC123_IN10), 9 PC1(ADC123_IN11), 10 PC2(ADC123_IN12), 11 PC3(ADC123_IN13), 12 VSSA, 13 VDDA, 14 PA0(ADC123_IN0/WKUP), 15 PA1(ADC123_IN1), 16 PA2(ADC123_IN2), 17 PA3(ADC123_IN3), 18 VSS, 19 VDD, 20 PA4(ADC12_IN4/DAC1_OUT), 21 PA5(ADC12_IN5/DAC2_OUT), 22 PA6(ADC12_IN6), 23 PA7(ADC12_IN7), 24 PC4(ADC12_IN14), 25 PC5(ADC12_IN15), 26 PB0(ADC12_IN8), 27 PB1(ADC12_IN9), 28 PB2-BOOT1, 29 PB10, 30 PB11, 31 VCAP1, 32 VDD, 33 PB12, 34 PB13(OTG_HS_VBUS), 35 PB14, 36 PB15, 37 PC6, 38 PC7, 39 PC8, 40 PC9, 41 PA8, 42 PA9(OTG_FS_VBUS), 43 PA10, 44 PA11, 45 PA12, 46 PA13(JTMS-SWDIO), 47 VCAP2, 48 VDD, 49 PA14(JTCK-SWCLK), 50 PA15(JTDI), 51 PC10, 52 PC11, 53 PC12, 54 PD2, 55 PB3(JTDO/TRACESWO), 56 PB4(NJTRST), 57 PB5, 58 PB6, 59 PB7, 60 BOOT0(VPP), 61 PB8, 62 PB9, 63 VSS, 64 VDD

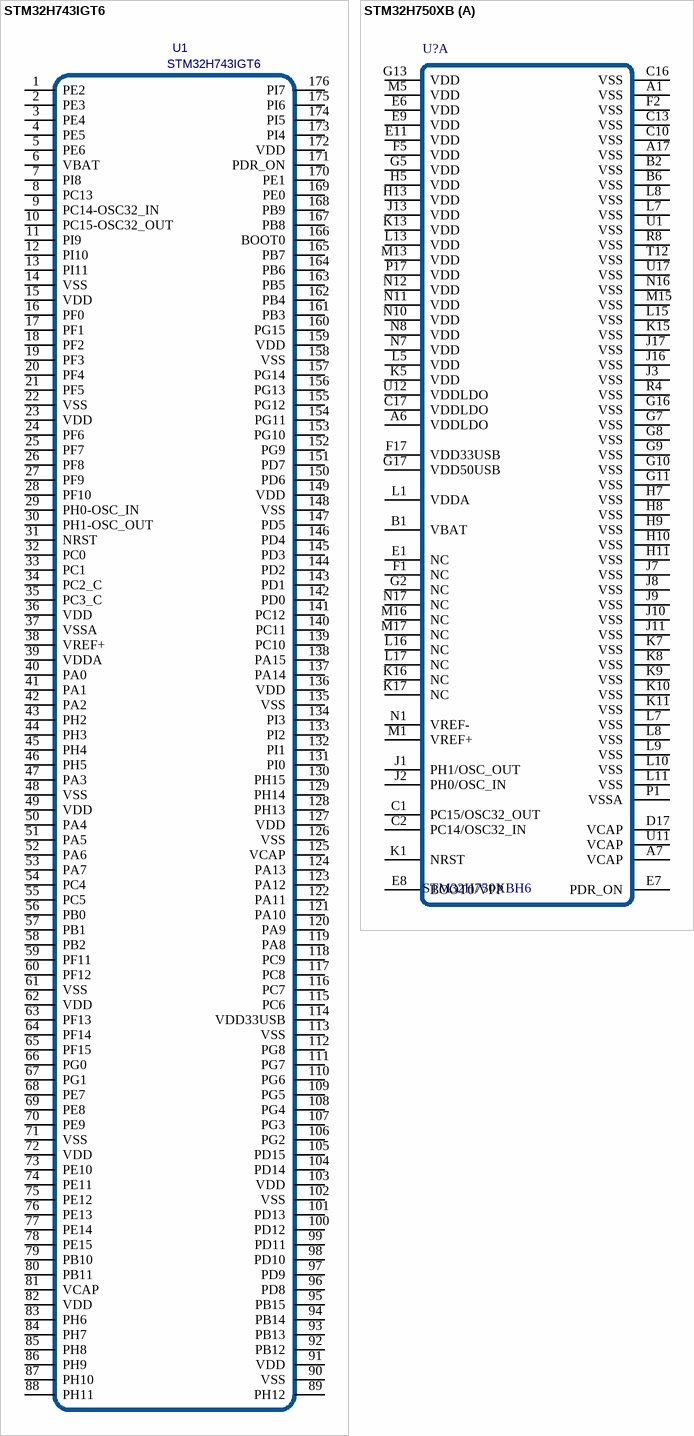
[diagram p3: symbols STM32H743IGT6 to STM32H750XB]

## STM32H743IGT6
designator U1
Manufacturer: STMicroelectronics; Contributor: LCSC; Supplier: LCSC; Supplier Part: C730182; Manufacturer Part: STM32H743IGT6; spicePre: U; spiceSymbolName: STM32H743IGT6
footprint LQFP-176_L24.0-W24.0-P0.50-LS26.0-BL
pins: 1 PE2, 2 PE3, 3 PE4, 4 PE5, 5 PE6, 6 VBAT, 7 PI8, 8 PC13, 9 PC14-OSC32_IN, 10 PC15-OSC32_OUT, 11 PI9, 12 PI10, 13 PI11, 14 VSS, 15 VDD, 16 PF0, 17 PF1, 18 PF2, 19 PF3, 20 PF4, 21 PF5, 22 VSS, 23 VDD, 24 PF6, 25 PF7, 26 PF8, 27 PF9, 28 PF10, 29 PH0-OSC_IN, 30 PH1-OSC_OUT, 31 NRST, 32 PC0, 33 PC1, 34 PC2_C, 35 PC3_C, 36 VDD, 37 VSSA, 38 VREF+, 39 VDDA, 40 PA0, 41 PA1, 42 PA2, 43 PH2, 44 PH3, 45 PH4, 46 PH5, 47 PA3, 48 VSS, 49 VDD, 50 PA4, 51 PA5, 52 PA6, 53 PA7, 54 PC4, 55 PC5, 56 PB0, 57 PB1, 58 PB2, 59 PF11, 60 PF12, 61 VSS, 62 VDD, 63 PF13, 64 PF14, 65 PF15, 66 PG0, 67 PG1, 68 PE7, 69 PE8, 70 PE9, 71 VSS, 72 VDD, 73 PE10, 74 PE11, 75 PE12, 76 PE13, 77 PE14, 78 PE15, 79 PB10, 80 PB11, 81 VCAP, 82 VDD, 83 PH6, 84 PH7, 85 PH8, 86 PH9, 87 PH10, 88 PH11, 89 PH12, 90 VSS, 91 VDD, 92 PB12, 93 PB13, 94 PB14, 95 PB15, 96 PD8, 97 PD9, 98 PD10, 99 PD11, 100 PD12, 101 PD13, 102 VSS, 103 VDD, 104 PD14, 105 PD15, 106 PG2, 107 PG3, 108 PG4, 109 PG5, 110 PG6, 111 PG7, 112 PG8, 113 VSS, 114 VDD33USB, 115 PC6, 116 PC7, 117 PC8, 118 PC9, 119 PA8, 120 PA9, 121 PA10, 122 PA11, 123 PA12, 124 PA13, 125 VCAP, 126 VSS, 127 VDD, 128 PH13, 129 PH14, 130 PH15, 131 PI0, 132 PI1, 133 PI2, 134 PI3, 135 VSS, 136 VDD, 137 PA14, 138 PA15, 139 PC10, 140 PC11, 141 PC12, 142 PD0, 143 PD1, 144 PD2, 145 PD3, 146 PD4, 147 PD5, 148 VSS, 149 VDD, 150 PD6, 151 PD7, 152 PG9, 153 PG10, 154 PG11, 155 PG12, 156 PG13, 157 PG14, 158 VSS, 159 VDD, 160 PG15, 161 PB3, 162 PB4, 163 PB5, 164 PB6, 165 PB7, 166 BOOT0, 167 PB8, 168 PB9, 169 PE0, 170 PE1, 171 PDR_ON, 172 VDD, 173 PI4, 174 PI5, 175 PI6, 176 PI7

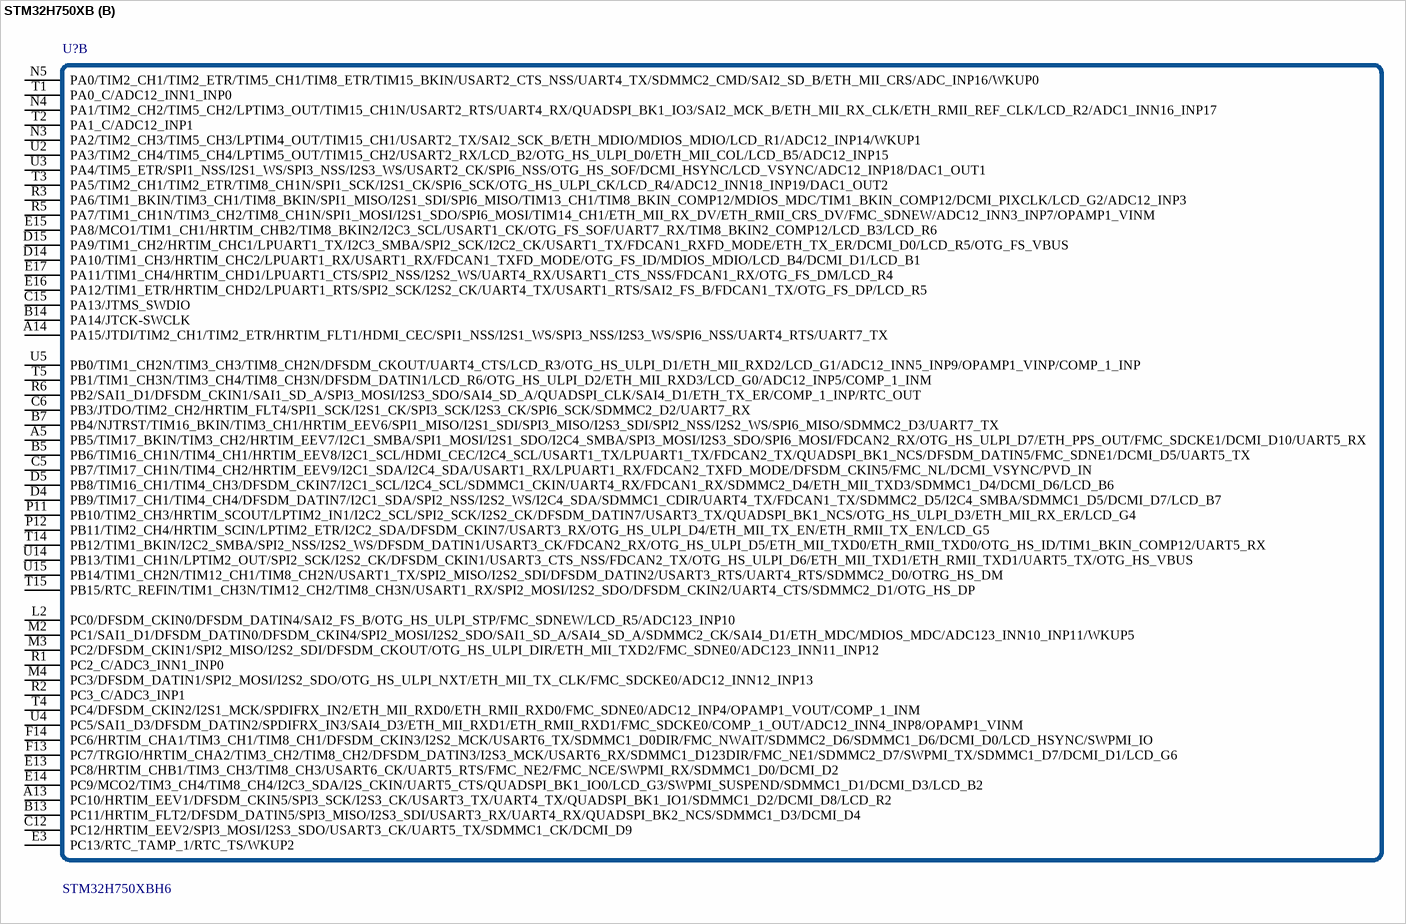
[diagram p4: symbol STM32H750XB]

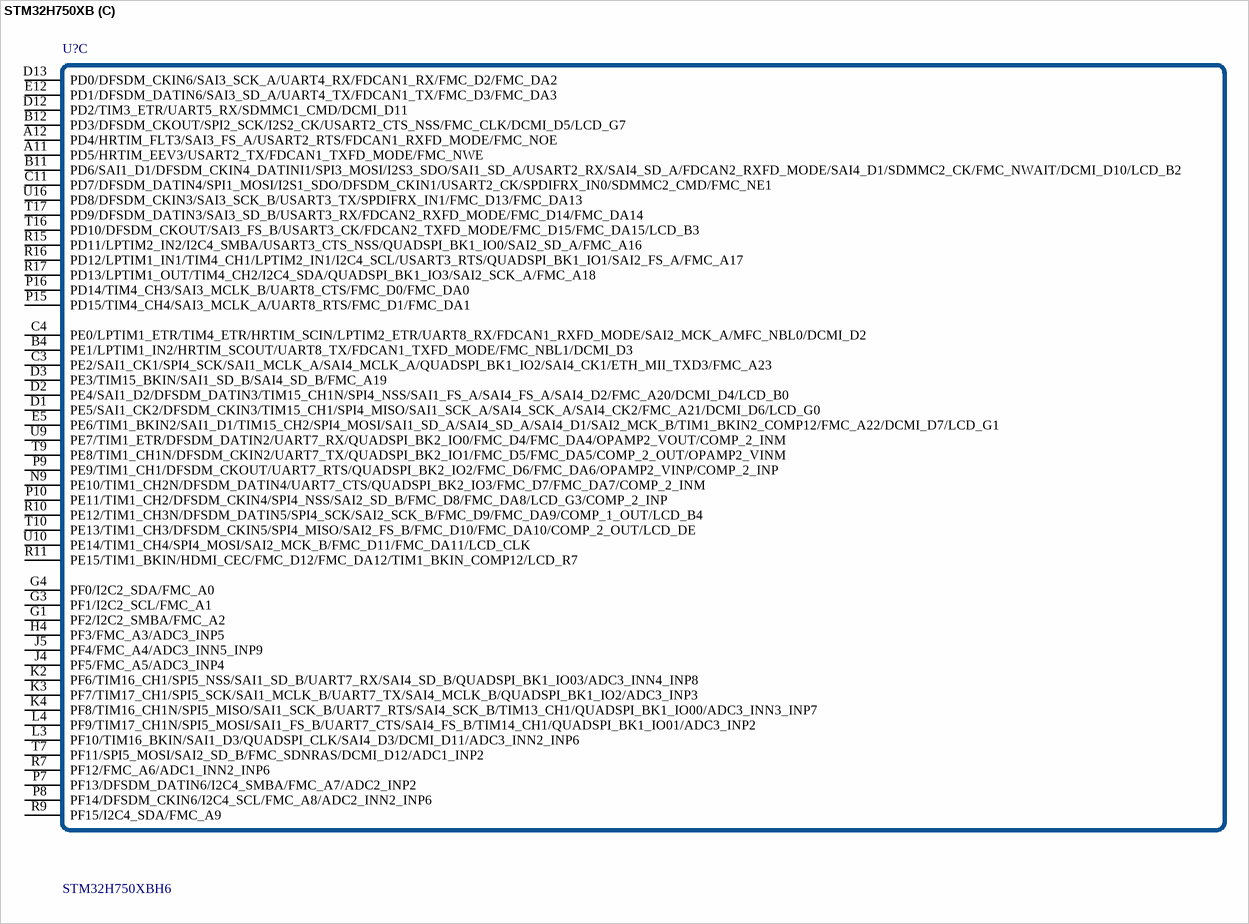
[diagram p5: symbol STM32H750XB]

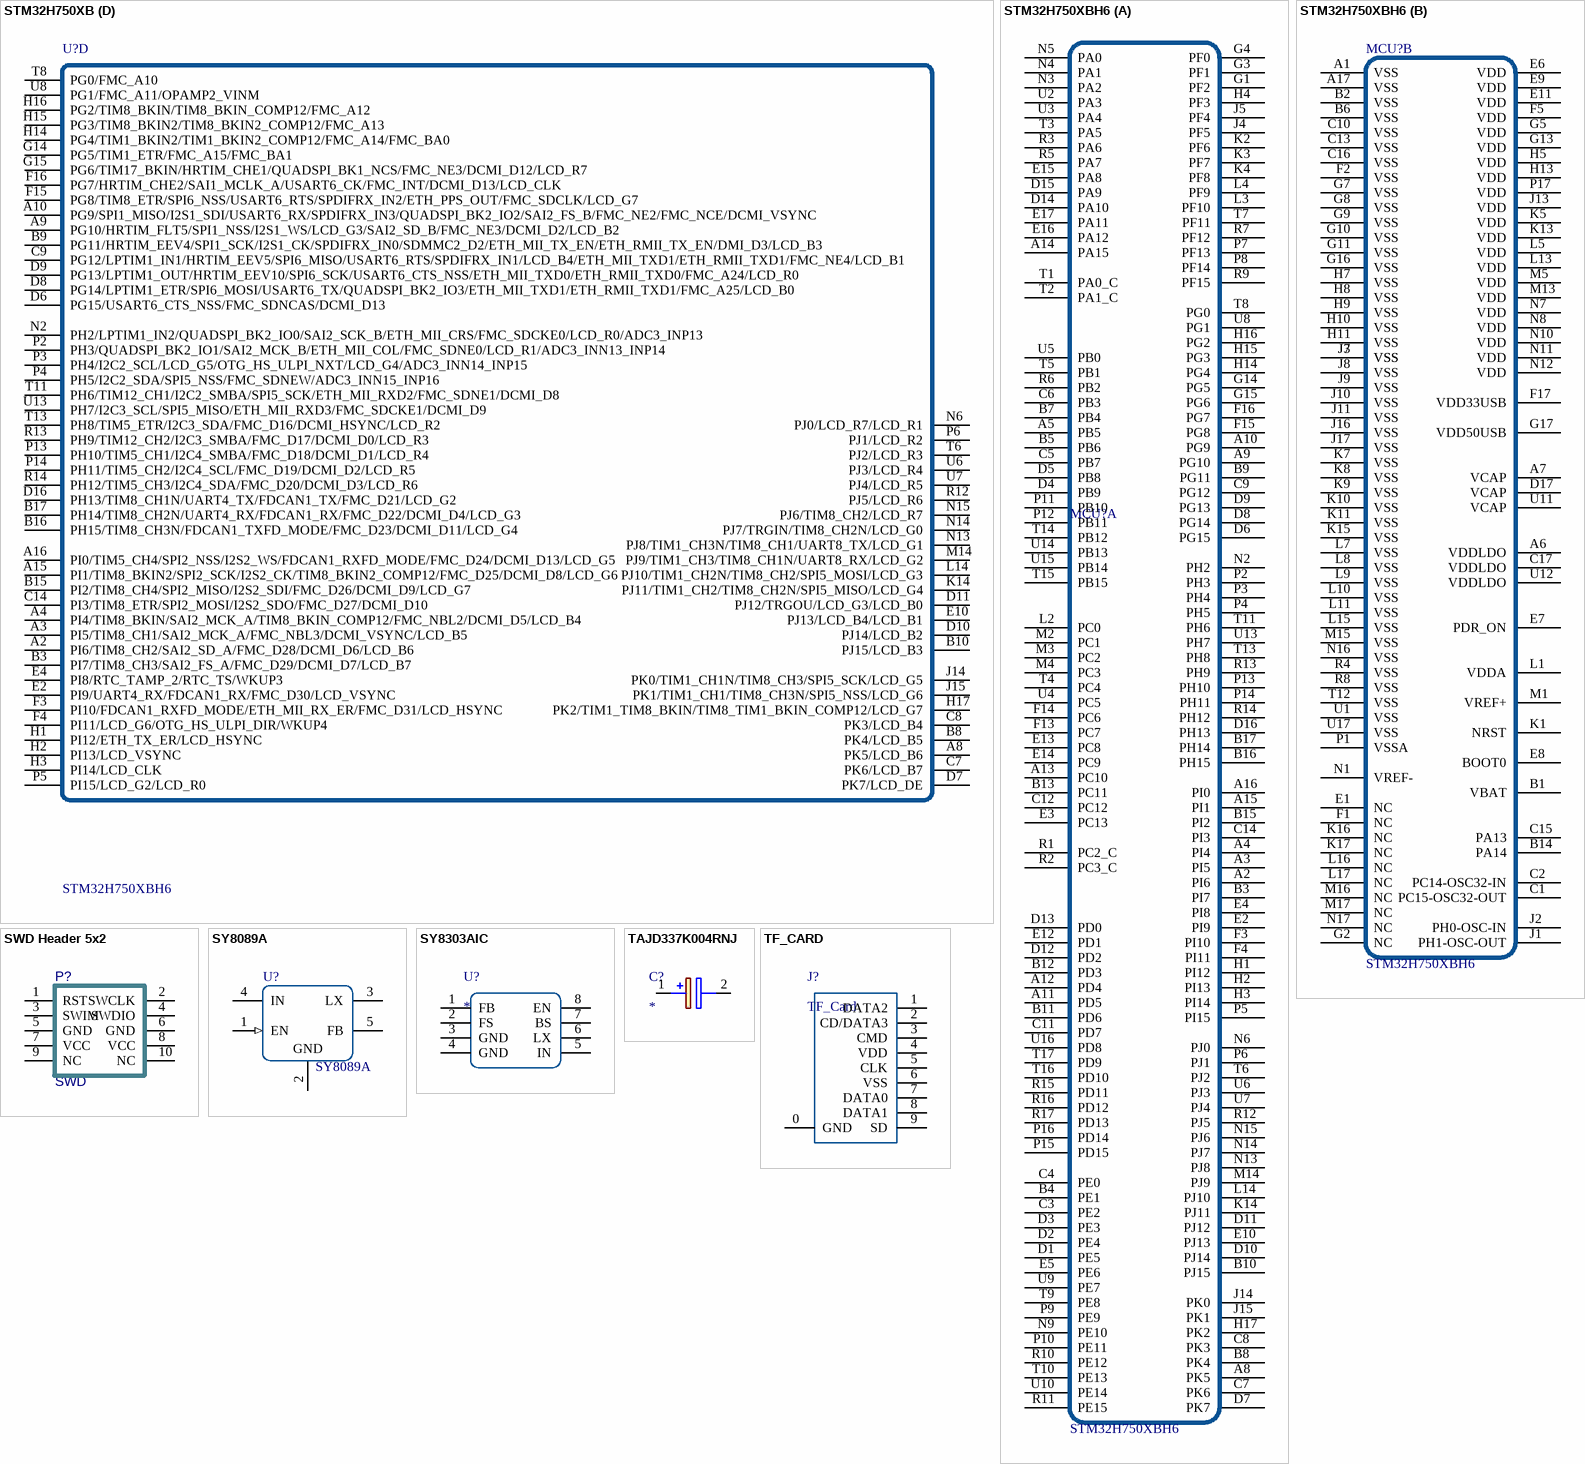
[diagram p6: symbols STM32H750XB to TF_CARD]

## STM32H750XB
designator U?, comment STM32H750XBH6
footprint BGA240+25 (14X14mm 0.8mm)
part A pins: A1 VSS, A6 VDDLDO, A7 VCAP, A17 VSS, B1 VBAT, B2 VSS, B6 VSS, C1 PC15/OSC32_OUT, C2 PC14/OSC32_IN, C10 VSS, C13 VSS, C16 VSS, C17 VDDLDO, D17 VCAP, E1 NC, E6 VDD, E7 PDR_ON, E8 BOOT0/VPP, E9 VDD, E11 VDD, F1 NC, F2 VSS, F5 VDD, F17 VDD33USB, G2 NC, G5 VDD, G7 VSS, G8 VSS, G9 VSS, G10 VSS, G11 VSS, G13 VDD, G16 VSS, G17 VDD50USB, H5 VDD, H7 VSS, H8 VSS, H9 VSS, H10 VSS, H11 VSS, H13 VDD, J1 PH1/OSC_OUT, J2 PH0/OSC_IN, J3 VSS, J7 VSS, J8 VSS, J9 VSS, J10 VSS, J11 VSS, J13 VDD, J16 VSS, J17 VSS, K1 NRST, K5 VDD, K7 VSS, K8 VSS, K9 VSS, K10 VSS, K11 VSS, K13 VDD, K15 VSS, K16 NC, K17 NC, L1 VDDA, L5 VDD, L7 VSS, L7 VSS, L8 VSS, L8 VSS, L9 VSS, L10 VSS, L11 VSS, L13 VDD, L15 VSS, L16 NC, L17 NC, M1 VREF+, M5 VDD, M13 VDD, M15 VSS, M16 NC, M17 NC, N1 VREF-, N7 VDD, N8 VDD, N10 VDD, N11 VDD, N12 VDD, N16 VSS, N17 NC, P1 VSSA, P17 VDD, R4 VSS, R8 VSS, T12 VSS, U1 VSS, U11 VCAP, U12 VDDLDO, U17 VSS
part B pins: A5 PB5/TIM17_BKIN/TIM3_CH2/HRTIM_EEV7/I2C1_SMBA/SPI1_MOSI/I2S1_SDO/I2C4_SMBA/SPI3_MOSI/I2S3_SDO/SPI6_MOSI/FDCAN2_RX/OTG_HS_ULPI_D7/ETH_PPS_OUT/FMC_SDCKE1/DCMI_D10/UART5_RX, A13 PC10/HRTIM_EEV1/DFSDM_CKIN5/SPI3_SCK/I2S3_CK/USART3_TX/UART4_TX/QUADSPI_BK1_IO1/SDMMC1_D2/DCMI_D8/LCD_R2, A14 PA15/JTDI/TIM2_CH1/TIM2_ETR/HRTIM_FLT1/HDMI_CEC/SPI1_NSS/I2S1_WS/SPI3_NSS/I2S3_WS/SPI6_NSS/UART4_RTS/UART7_TX, B5 PB6/TIM16_CH1N/TIM4_CH1/HRTIM_EEV8/I2C1_SCL/HDMI_CEC/I2C4_SCL/USART1_TX/LPUART1_TX/FDCAN2_TX/QUADSPI_BK1_NCS/DFSDM_DATIN5/FMC_SDNE1/DCMI_D5/UART5_TX, B7 PB4/NJTRST/TIM16_BKIN/TIM3_CH1/HRTIM_EEV6/SPI1_MISO/I2S1_SDI/SPI3_MISO/I2S3_SDI/SPI2_NSS/I2S2_WS/SPI6_MISO/SDMMC2_D3/UART7_TX, B13 PC11/HRTIM_FLT2/DFSDM_DATIN5/SPI3_MISO/I2S3_SDI/USART3_RX/UART4_RX/QUADSPI_BK2_NCS/SDMMC1_D3/DCMI_D4, B14 PA14/JTCK-SWCLK, C5 PB7/TIM17_CH1N/TIM4_CH2/HRTIM_EEV9/I2C1_SDA/I2C4_SDA/USART1_RX/LPUART1_RX/FDCAN2_TXFD_MODE/DFSDM_CKIN5/FMC_NL/DCMI_VSYNC/PVD_IN, C6 PB3/JTDO/TIM2_CH2/HRTIM_FLT4/SPI1_SCK/I2S1_CK/SPI3_SCK/I2S3_CK/SPI6_SCK/SDMMC2_D2/UART7_RX, C12 PC12/HRTIM_EEV2/SPI3_MOSI/I2S3_SDO/USART3_CK/UART5_TX/SDMMC1_CK/DCMI_D9, C15 PA13/JTMS_SWDIO, D4 PB9/TIM17_CH1/TIM4_CH4/DFSDM_DATIN7/I2C1_SDA/SPI2_NSS/I2S2_WS/I2C4_SDA/SDMMC1_CDIR/UART4_TX/FDCAN1_TX/SDMMC2_D5/I2C4_SMBA/SDMMC1_D5/DCMI_D7/LCD_B7, D5 PB8/TIM16_CH1/TIM4_CH3/DFSDM_CKIN7/I2C1_SCL/I2C4_SCL/SDMMC1_CKIN/UART4_RX/FDCAN1_RX/SDMMC2_D4/ETH_MII_TXD3/SDMMC1_D4/DCMI_D6/LCD_B6, D14 PA10/TIM1_CH3/HRTIM_CHC2/LPUART1_RX/USART1_RX/FDCAN1_TXFD_MODE/OTG_FS_ID/MDIOS_MDIO/LCD_B4/DCMI_D1/LCD_B1, D15 PA9/TIM1_CH2/HRTIM_CHC1/LPUART1_TX/I2C3_SMBA/SPI2_SCK/I2C2_CK/USART1_TX/FDCAN1_RXFD_MODE/ETH_TX_ER/DCMI_D0/LCD_R5/OTG_FS_VBUS, E3 PC13/RTC_TAMP_1/RTC_TS/WKUP2, E13 PC8/HRTIM_CHB1/TIM3_CH3/TIM8_CH3/USART6_CK/UART5_RTS/FMC_NE2/FMC_NCE/SWPMI_RX/SDMMC1_D0/DCMI_D2, E14 PC9/MCO2/TIM3_CH4/TIM8_CH4/I2C3_SDA/I2S_CKIN/UART5_CTS/QUADSPI_BK1_IO0/LCD_G3/SWPMI_SUSPEND/SDMMC1_D1/DCMI_D3/LCD_B2, E15 PA8/MCO1/TIM1_CH1/HRTIM_CHB2/TIM8_BKIN2/I2C3_SCL/USART1_CK/OTG_FS_SOF/UART7_RX/TIM8_BKIN2_COMP12/LCD_B3/LCD_R6, E16 PA12/TIM1_ETR/HRTIM_CHD2/LPUART1_RTS/SPI2_SCK/I2S2_CK/UART4_TX/USART1_RTS/SAI2_FS_B/FDCAN1_TX/OTG_FS_DP/LCD_R5, E17 PA11/TIM1_CH4/HRTIM_CHD1/LPUART1_CTS/SPI2_NSS/I2S2_WS/UART4_RX/USART1_CTS_NSS/FDCAN1_RX/OTG_FS_DM/LCD_R4, F13 PC7/TRGIO/HRTIM_CHA2/TIM3_CH2/TIM8_CH2/DFSDM_DATIN3/I2S3_MCK/USART6_RX/SDMMC1_D123DIR/FMC_NE1/SDMMC2_D7/SWPMI_TX/SDMMC1_D7/DCMI_D1/LCD_G6, F14 PC6/HRTIM_CHA1/TIM3_CH1/TIM8_CH1/DFSDM_CKIN3/I2S2_MCK/USART6_TX/SDMMC1_D0DIR/FMC_NWAIT/SDMMC2_D6/SDMMC1_D6/DCMI_D0/LCD_HSYNC/SWPMI_IO, L2 PC0/DFSDM_CKIN0/DFSDM_DATIN4/SAI2_FS_B/OTG_HS_ULPI_STP/FMC_SDNEW/LCD_R5/ADC123_INP10, M2 PC1/SAI1_D1/DFSDM_DATIN0/DFSDM_CKIN4/SPI2_MOSI/I2S2_SDO/SAI1_SD_A/SAI4_SD_A/SDMMC2_CK/SAI4_D1/ETH_MDC/MDIOS_MDC/ADC123_INN10_INP11/WKUP5, M3 PC2/DFSDM_CKIN1/SPI2_MISO/I2S2_SDI/DFSDM_CKOUT/OTG_HS_ULPI_DIR/ETH_MII_TXD2/FMC_SDNE0/ADC123_INN11_INP12, M4 PC3/DFSDM_DATIN1/SPI2_MOSI/I2S2_SDO/OTG_HS_ULPI_NXT/ETH_MII_TX_CLK/FMC_SDCKE0/ADC12_INN12_INP13, N3 PA2/TIM2_CH3/TIM5_CH3/LPTIM4_OUT/TIM15_CH1/USART2_TX/SAI2_SCK_B/ETH_MDIO/MDIOS_MDIO/LCD_R1/ADC12_INP14/WKUP1, N4 PA1/TIM2_CH2/TIM5_CH2/LPTIM3_OUT/TIM15_CH1N/USART2_RTS/UART4_RX/QUADSPI_BK1_IO3/SAI2_MCK_B/ETH_MII_RX_CLK/ETH_RMII_REF_CLK/LCD_R2/ADC1_INN16_INP17, N5 PA0/TIM2_CH1/TIM2_ETR/TIM5_CH1/TIM8_ETR/TIM15_BKIN/USART2_CTS_NSS/UART4_TX/SDMMC2_CMD/SAI2_SD_B/ETH_MII_CRS/ADC_INP16/WKUP0, P11 PB10/TIM2_CH3/HRTIM_SCOUT/LPTIM2_IN1/I2C2_SCL/SPI2_SCK/I2S2_CK/DFSDM_DATIN7/USART3_TX/QUADSPI_BK1_NCS/OTG_HS_ULPI_D3/ETH_MII_RX_ER/LCD_G4, P12 PB11/TIM2_CH4/HRTIM_SCIN/LPTIM2_ETR/I2C2_SDA/DFSDM_CKIN7/USART3_RX/OTG_HS_ULPI_D4/ETH_MII_TX_EN/ETH_RMII_TX_EN/LCD_G5, R1 PC2_C/ADC3_INN1_INP0, R2 PC3_C/ADC3_INP1, R3 PA6/TIM1_BKIN/TIM3_CH1/TIM8_BKIN/SPI1_MISO/I2S1_SDI/SPI6_MISO/TIM13_CH1/TIM8_BKIN_COMP12/MDIOS_MDC/TIM1_BKIN_COMP12/DCMI_PIXCLK/LCD_G2/ADC12_INP3, R5 PA7/TIM1_CH1N/TIM3_CH2/TIM8_CH1N/SPI1_MOSI/I2S1_SDO/SPI6_MOSI/TIM14_CH1/ETH_MII_RX_DV/ETH_RMII_CRS_DV/FMC_SDNEW/ADC12_INN3_INP7/OPAMP1_VINM, R6 PB2/SAI1_D1/DFSDM_CKIN1/SAI1_SD_A/SPI3_MOSI/I2S3_SDO/SAI4_SD_A/QUADSPI_CLK/SAI4_D1/ETH_TX_ER/COMP_1_INP/RTC_OUT, T1 PA0_C/ADC12_INN1_INP0, T2 PA1_C/ADC12_INP1, T3 PA5/TIM2_CH1/TIM2_ETR/TIM8_CH1N/SPI1_SCK/I2S1_CK/SPI6_SCK/OTG_HS_ULPI_CK/LCD_R4/ADC12_INN18_INP19/DAC1_OUT2, T4 PC4/DFSDM_CKIN2/I2S1_MCK/SPDIFRX_IN2/ETH_MII_RXD0/ETH_RMII_RXD0/FMC_SDNE0/ADC12_INP4/OPAMP1_VOUT/COMP_1_INM, T5 PB1/TIM1_CH3N/TIM3_CH4/TIM8_CH3N/DFSDM_DATIN1/LCD_R6/OTG_HS_ULPI_D2/ETH_MII_RXD3/LCD_G0/ADC12_INP5/COMP_1_INM, T14 PB12/TIM1_BKIN/I2C2_SMBA/SPI2_NSS/I2S2_WS/DFSDM_DATIN1/USART3_CK/FDCAN2_RX/OTG_HS_ULPI_D5/ETH_MII_TXD0/ETH_RMII_TXD0/OTG_HS_ID/TIM1_BKIN_COMP12/UART5_RX, T15 PB15/RTC_REFIN/TIM1_CH3N/TIM12_CH2/TIM8_CH3N/USART1_RX/SPI2_MOSI/I2S2_SDO/DFSDM_CKIN2/UART4_CTS/SDMMC2_D1/OTG_HS_DP, U2 PA3/TIM2_CH4/TIM5_CH4/LPTIM5_OUT/TIM15_CH2/USART2_RX/LCD_B2/OTG_HS_ULPI_D0/ETH_MII_COL/LCD_B5/ADC12_INP15, U3 PA4/TIM5_ETR/SPI1_NSS/I2S1_WS/SPI3_NSS/I2S3_WS/USART2_CK/SPI6_NSS/OTG_HS_SOF/DCMI_HSYNC/LCD_VSYNC/ADC12_INP18/DAC1_OUT1, U4 PC5/SAI1_D3/DFSDM_DATIN2/SPDIFRX_IN3/SAI4_D3/ETH_MII_RXD1/ETH_RMII_RXD1/FMC_SDCKE0/COMP_1_OUT/ADC12_INN4_INP8/OPAMP1_VINM, U5 PB0/TIM1_CH2N/TIM3_CH3/TIM8_CH2N/DFSDM_CKOUT/UART4_CTS/LCD_R3/OTG_HS_ULPI_D1/ETH_MII_RXD2/LCD_G1/ADC12_INN5_INP9/OPAMP1_VINP/COMP_1_INP, U14 PB13/TIM1_CH1N/LPTIM2_OUT/SPI2_SCK/I2S2_CK/DFSDM_CKIN1/USART3_CTS_NSS/FDCAN2_TX/OTG_HS_ULPI_D6/ETH_MII_TXD1/ETH_RMII_TXD1/UART5_TX/OTG_HS_VBUS, U15 PB14/TIM1_CH2N/TIM12_CH1/TIM8_CH2N/USART1_TX/SPI2_MISO/I2S2_SDI/DFSDM_DATIN2/USART3_RTS/UART4_RTS/SDMMC2_D0/OTRG_HS_DM
part C pins: A11 PD5/HRTIM_EEV3/USART2_TX/FDCAN1_TXFD_MODE/FMC_NWE, A12 PD4/HRTIM_FLT3/SAI3_FS_A/USART2_RTS/FDCAN1_RXFD_MODE/FMC_NOE, B4 PE1/LPTIM1_IN2/HRTIM_SCOUT/UART8_TX/FDCAN1_TXFD_MODE/FMC_NBL1/DCMI_D3, B11 PD6/SAI1_D1/DFSDM_CKIN4_DATINI1/SPI3_MOSI/I2S3_SDO/SAI1_SD_A/USART2_RX/SAI4_SD_A/FDCAN2_RXFD_MODE/SAI4_D1/SDMMC2_CK/FMC_NWAIT/DCMI_D10/LCD_B2, B12 PD3/DFSDM_CKOUT/SPI2_SCK/I2S2_CK/USART2_CTS_NSS/FMC_CLK/DCMI_D5/LCD_G7, C3 PE2/SAI1_CK1/SPI4_SCK/SAI1_MCLK_A/SAI4_MCLK_A/QUADSPI_BK1_IO2/SAI4_CK1/ETH_MII_TXD3/FMC_A23, C4 PE0/LPTIM1_ETR/TIM4_ETR/HRTIM_SCIN/LPTIM2_ETR/UART8_RX/FDCAN1_RXFD_MODE/SAI2_MCK_A/MFC_NBL0/DCMI_D2, C11 PD7/DFSDM_DATIN4/SPI1_MOSI/I2S1_SDO/DFSDM_CKIN1/USART2_CK/SPDIFRX_IN0/SDMMC2_CMD/FMC_NE1, D1 PE5/SAI1_CK2/DFSDM_CKIN3/TIM15_CH1/SPI4_MISO/SAI1_SCK_A/SAI4_SCK_A/SAI4_CK2/FMC_A21/DCMI_D6/LCD_G0, D2 PE4/SAI1_D2/DFSDM_DATIN3/TIM15_CH1N/SPI4_NSS/SAI1_FS_A/SAI4_FS_A/SAI4_D2/FMC_A20/DCMI_D4/LCD_B0, D3 PE3/TIM15_BKIN/SAI1_SD_B/SAI4_SD_B/FMC_A19, D12 PD2/TIM3_ETR/UART5_RX/SDMMC1_CMD/DCMI_D11, D13 PD0/DFSDM_CKIN6/SAI3_SCK_A/UART4_RX/FDCAN1_RX/FMC_D2/FMC_DA2, E5 PE6/TIM1_BKIN2/SAI1_D1/TIM15_CH2/SPI4_MOSI/SAI1_SD_A/SAI4_SD_A/SAI4_D1/SAI2_MCK_B/TIM1_BKIN2_COMP12/FMC_A22/DCMI_D7/LCD_G1, E12 PD1/DFSDM_DATIN6/SAI3_SD_A/UART4_TX/FDCAN1_TX/FMC_D3/FMC_DA3, G1 PF2/I2C2_SMBA/FMC_A2, G3 PF1/I2C2_SCL/FMC_A1, G4 PF0/I2C2_SDA/FMC_A0, H4 PF3/FMC_A3/ADC3_INP5, J4 PF5/FMC_A5/ADC3_INP4, J5 PF4/FMC_A4/ADC3_INN5_INP9, K2 PF6/TIM16_CH1/SPI5_NSS/SAI1_SD_B/UART7_RX/SAI4_SD_B/QUADSPI_BK1_IO03/ADC3_INN4_INP8, K3 PF7/TIM17_CH1/SPI5_SCK/SAI1_MCLK_B/UART7_TX/SAI4_MCLK_B/QUADSPI_BK1_IO2/ADC3_INP3, K4 PF8/TIM16_CH1N/SPI5_MISO/SAI1_SCK_B/UART7_RTS/SAI4_SCK_B/TIM13_CH1/QUADSPI_BK1_IO00/ADC3_INN3_INP7, L3 PF10/TIM16_BKIN/SAI1_D3/QUADSPI_CLK/SAI4_D3/DCMI_D11/ADC3_INN2_INP6, L4 PF9/TIM17_CH1N/SPI5_MOSI/SAI1_FS_B/UART7_CTS/SAI4_FS_B/TIM14_CH1/QUADSPI_BK1_IO01/ADC3_INP2, N9 PE10/TIM1_CH2N/DFSDM_DATIN4/UART7_CTS/QUADSPI_BK2_IO3/FMC_D7/FMC_DA7/COMP_2_INM, P7 PF13/DFSDM_DATIN6/I2C4_SMBA/FMC_A7/ADC2_INP2, P8 PF14/DFSDM_CKIN6/I2C4_SCL/FMC_A8/ADC2_INN2_INP6, P9 PE9/TIM1_CH1/DFSDM_CKOUT/UART7_RTS/QUADSPI_BK2_IO2/FMC_D6/FMC_DA6/OPAMP2_VINP/COMP_2_INP, P10 PE11/TIM1_CH2/DFSDM_CKIN4/SPI4_NSS/SAI2_SD_B/FMC_D8/FMC_DA8/LCD_G3/COMP_2_INP, P15 PD15/TIM4_CH4/SAI3_MCLK_A/UART8_RTS/FMC_D1/FMC_DA1, P16 PD14/TIM4_CH3/SAI3_MCLK_B/UART8_CTS/FMC_D0/FMC_DA0, R7 PF12/FMC_A6/ADC1_INN2_INP6, R9 PF15/I2C4_SDA/FMC_A9, R10 PE12/TIM1_CH3N/DFSDM_DATIN5/SPI4_SCK/SAI2_SCK_B/FMC_D9/FMC_DA9/COMP_1_OUT/LCD_B4, R11 PE15/TIM1_BKIN/HDMI_CEC/FMC_D12/FMC_DA12/TIM1_BKIN_COMP12/LCD_R7, R15 PD11/LPTIM2_IN2/I2C4_SMBA/USART3_CTS_NSS/QUADSPI_BK1_IO0/SAI2_SD_A/FMC_A16, R16 PD12/LPTIM1_IN1/TIM4_CH1/LPTIM2_IN1/I2C4_SCL/USART3_RTS/QUADSPI_BK1_IO1/SAI2_FS_A/FMC_A17, R17 PD13/LPTIM1_OUT/TIM4_CH2/I2C4_SDA/QUADSPI_BK1_IO3/SAI2_SCK_A/FMC_A18, T7 PF11/SPI5_MOSI/SAI2_SD_B/FMC_SDNRAS/DCMI_D12/ADC1_INP2, T9 PE8/TIM1_CH1N/DFSDM_CKIN2/UART7_TX/QUADSPI_BK2_IO1/FMC_D5/FMC_DA5/COMP_2_OUT/OPAMP2_VINM, T10 PE13/TIM1_CH3/DFSDM_CKIN5/SPI4_MISO/SAI2_FS_B/FMC_D10/FMC_DA10/COMP_2_OUT/LCD_DE, T16 PD10/DFSDM_CKOUT/SAI3_FS_B/USART3_CK/FDCAN2_TXFD_MODE/FMC_D15/FMC_DA15/LCD_B3, T17 PD9/DFSDM_DATIN3/SAI3_SD_B/USART3_RX/FDCAN2_RXFD_MODE/FMC_D14/FMC_DA14, U9 PE7/TIM1_ETR/DFSDM_DATIN2/UART7_RX/QUADSPI_BK2_IO0/FMC_D4/FMC_DA4/OPAMP2_VOUT/COMP_2_INM, U10 PE14/TIM1_CH4/SPI4_MOSI/SAI2_MCK_B/FMC_D11/FMC_DA11/LCD_CLK, U16 PD8/DFSDM_CKIN3/SAI3_SCK_B/USART3_TX/SPDIFRX_IN1/FMC_D13/FMC_DA13
part D pins: A2 PI6/TIM8_CH2/SAI2_SD_A/FMC_D28/DCMI_D6/LCD_B6, A3 PI5/TIM8_CH1/SAI2_MCK_A/FMC_NBL3/DCMI_VSYNC/LCD_B5, A4 PI4/TIM8_BKIN/SAI2_MCK_A/TIM8_BKIN_COMP12/FMC_NBL2/DCMI_D5/LCD_B4, A8 PK5/LCD_B6, A9 PG10/HRTIM_FLT5/SPI1_NSS/I2S1_WS/LCD_G3/SAI2_SD_B/FMC_NE3/DCMI_D2/LCD_B2, A10 PG9/SPI1_MISO/I2S1_SDI/USART6_RX/SPDIFRX_IN3/QUADSPI_BK2_IO2/SAI2_FS_B/FMC_NE2/FMC_NCE/DCMI_VSYNC, A15 PI1/TIM8_BKIN2/SPI2_SCK/I2S2_CK/TIM8_BKIN2_COMP12/FMC_D25/DCMI_D8/LCD_G6, A16 PI0/TIM5_CH4/SPI2_NSS/I2S2_WS/FDCAN1_RXFD_MODE/FMC_D24/DCMI_D13/LCD_G5, B3 PI7/TIM8_CH3/SAI2_FS_A/FMC_D29/DCMI_D7/LCD_B7, B8 PK4/LCD_B5, B9 PG11/HRTIM_EEV4/SPI1_SCK/I2S1_CK/SPDIFRX_IN0/SDMMC2_D2/ETH_MII_TX_EN/ETH_RMII_TX_EN/DMI_D3/LCD_B3, B10 PJ15/LCD_B3, B15 PI2/TIM8_CH4/SPI2_MISO/I2S2_SDI/FMC_D26/DCMI_D9/LCD_G7, B16 PH15/TIM8_CH3N/FDCAN1_TXFD_MODE/FMC_D23/DCMI_D11/LCD_G4, B17 PH14/TIM8_CH2N/UART4_RX/FDCAN1_RX/FMC_D22/DCMI_D4/LCD_G3, C7 PK6/LCD_B7, C8 PK3/LCD_B4, C9 PG12/LPTIM1_IN1/HRTIM_EEV5/SPI6_MISO/USART6_RTS/SPDIFRX_IN1/LCD_B4/ETH_MII_TXD1/ETH_RMII_TXD1/FMC_NE4/LCD_B1, C14 PI3/TIM8_ETR/SPI2_MOSI/I2S2_SDO/FMC_D27/DCMI_D10, D6 PG15/USART6_CTS_NSS/FMC_SDNCAS/DCMI_D13, D7 PK7/LCD_DE, D8 PG14/LPTIM1_ETR/SPI6_MOSI/USART6_TX/QUADSPI_BK2_IO3/ETH_MII_TXD1/ETH_RMII_TXD1/FMC_A25/LCD_B0, D9 PG13/LPTIM1_OUT/HRTIM_EEV10/SPI6_SCK/USART6_CTS_NSS/ETH_MII_TXD0/ETH_RMII_TXD0/FMC_A24/LCD_R0, D10 PJ14/LCD_B2, D11 PJ12/TRGOU/LCD_G3/LCD_B0, D16 PH13/TIM8_CH1N/UART4_TX/FDCAN1_TX/FMC_D21/LCD_G2, E2 PI9/UART4_RX/FDCAN1_RX/FMC_D30/LCD_VSYNC, E4 PI8/RTC_TAMP_2/RTC_TS/WKUP3, E10 PJ13/LCD_B4/LCD_B1, F3 PI10/FDCAN1_RXFD_MODE/ETH_MII_RX_ER/FMC_D31/LCD_HSYNC, F4 PI11/LCD_G6/OTG_HS_ULPI_DIR/WKUP4, F15 PG8/TIM8_ETR/SPI6_NSS/USART6_RTS/SPDIFRX_IN2/ETH_PPS_OUT/FMC_SDCLK/LCD_G7, F16 PG7/HRTIM_CHE2/SAI1_MCLK_A/USART6_CK/FMC_INT/DCMI_D13/LCD_CLK, G14 PG5/TIM1_ETR/FMC_A15/FMC_BA1, G15 PG6/TIM17_BKIN/HRTIM_CHE1/QUADSPI_BK1_NCS/FMC_NE3/DCMI_D12/LCD_R7, H1 PI12/ETH_TX_ER/LCD_HSYNC, H2 PI13/LCD_VSYNC, H3 PI14/LCD_CLK, H14 PG4/TIM1_BKIN2/TIM1_BKIN2_COMP12/FMC_A14/FMC_BA0, H15 PG3/TIM8_BKIN2/TIM8_BKIN2_COMP12/FMC_A13, H16 PG2/TIM8_BKIN/TIM8_BKIN_COMP12/FMC_A12, H17 PK2/TIM1_TIM8_BKIN/TIM8_TIM1_BKIN_COMP12/LCD_G7, J14 PK0/TIM1_CH1N/TIM8_CH3/SPI5_SCK/LCD_G5, J15 PK1/TIM1_CH1/TIM8_CH3N/SPI5_NSS/LCD_G6, K14 PJ11/TIM1_CH2/TIM8_CH2N/SPI5_MISO/LCD_G4, L14 PJ10/TIM1_CH2N/TIM8_CH2/SPI5_MOSI/LCD_G3, M14 PJ9/TIM1_CH3/TIM8_CH1N/UART8_RX/LCD_G2, N2 PH2/LPTIM1_IN2/QUADSPI_BK2_IO0/SAI2_SCK_B/ETH_MII_CRS/FMC_SDCKE0/LCD_R0/ADC3_INP13, N6 PJ0/LCD_R7/LCD_R1, N13 PJ8/TIM1_CH3N/TIM8_CH1/UART8_TX/LCD_G1, N14 PJ7/TRGIN/TIM8_CH2N/LCD_G0, N15 PJ6/TIM8_CH2/LCD_R7, P2 PH3/QUADSPI_BK2_IO1/SAI2_MCK_B/ETH_MII_COL/FMC_SDNE0/LCD_R1/ADC3_INN13_INP14, P3 PH4/I2C2_SCL/LCD_G5/OTG_HS_ULPI_NXT/LCD_G4/ADC3_INN14_INP15, P4 PH5/I2C2_SDA/SPI5_NSS/FMC_SDNEW/ADC3_INN15_INP16, P5 PI15/LCD_G2/LCD_R0, P6 PJ1/LCD_R2, P13 PH10/TIM5_CH1/I2C4_SMBA/FMC_D18/DCMI_D1/LCD_R4, P14 PH11/TIM5_CH2/I2C4_SCL/FMC_D19/DCMI_D2/LCD_R5, R12 PJ5/LCD_R6, R13 PH9/TIM12_CH2/I2C3_SMBA/FMC_D17/DCMI_D0/LCD_R3, R14 PH12/TIM5_CH3/I2C4_SDA/FMC_D20/DCMI_D3/LCD_R6, T6 PJ2/LCD_R3, T8 PG0/FMC_A10, T11 PH6/TIM12_CH1/I2C2_SMBA/SPI5_SCK/ETH_MII_RXD2/FMC_SDNE1/DCMI_D8, T13 PH8/TIM5_ETR/I2C3_SDA/FMC_D16/DCMI_HSYNC/LCD_R2, U6 PJ3/LCD_R4, U7 PJ4/LCD_R5, U8 PG1/FMC_A11/OPAMP2_VINM, U13 PH7/I2C3_SCL/SPI5_MISO/ETH_MII_RXD3/FMC_SDCKE1/DCMI_D9

## STM32H750XBH6
designator MCU?
footprint BGA240+25
part A pins: A2 PI6, A3 PI5, A4 PI4, A5 PB5, A8 PK5, A9 PG10, A10 PG9, A11 PD5, A12 PD4, A13 PC10, A14 PA15, A15 PI1, A16 PI0, B3 PI7, B4 PE1, B5 PB6, B7 PB4, B8 PK4, B9 PG11, B10 PJ15, B11 PD6, B12 PD3, B13 PC11, B15 PI2, B16 PH15, B17 PH14, C3 PE2, C4 PE0, C5 PB7, C6 PB3, C7 PK6, C8 PK3, C9 PG12, C11 PD7, C12 PC12, C14 PI3, D1 PE5, D2 PE4, D3 PE3, D4 PB9, D5 PB8, D6 PG15, D7 PK7, D8 PG14, D9 PG13, D10 PJ14, D11 PJ12, D12 PD2, D13 PD0, D14 PA10, D15 PA9, D16 PH13, E2 PI9, E3 PC13, E4 PI8, E5 PE6, E10 PJ13, E12 PD1, E13 PC8, E14 PC9, E15 PA8, E16 PA12, E17 PA11, F3 PI10, F4 PI11, F13 PC7, F14 PC6, F15 PG8, F16 PG7, G1 PF2, G3 PF1, G4 PF0, G14 PG5, G15 PG6, H1 PI12, H2 PI13, H3 PI14, H4 PF3, H14 PG4, H15 PG3, H16 PG2, H17 PK2, J4 PF5, J5 PF4, J14 PK0, J15 PK1, K2 PF6, K3 PF7, K4 PF8, K14 PJ11, L2 PC0, L3 PF10, L4 PF9, L14 PJ10, M2 PC1, M3 PC2, M4 PC3, M14 PJ9, N2 PH2, N3 PA2, N4 PA1, N5 PA0, N6 PJ0, N9 PE10, N13 PJ8, N14 PJ7, N15 PJ6, P2 PH3, P3 PH4, P4 PH5, P5 PI15, P6 PJ1, P7 PF13, P8 PF14, P9 PE9, P10 PE11, P11 PB10, P12 PB11, P13 PH10, P14 PH11, P15 PD15, P16 PD14, R1 PC2_C, R2 PC3_C, R3 PA6, R5 PA7, R6 PB2, R7 PF12, R9 PF15, R10 PE12, R11 PE15, R12 PJ5, R13 PH9, R14 PH12, R15 PD11, R16 PD12, R17 PD13, T1 PA0_C, T2 PA1_C, T3 PA5, T4 PC4, T5 PB1, T6 PJ2, T7 PF11, T8 PG0, T9 PE8, T10 PE13, T11 PH6, T13 PH8, T14 PB12, T15 PB15, T16 PD10, T17 PD9, U2 PA3, U3 PA4, U4 PC5, U5 PB0, U6 PJ3, U7 PJ4, U8 PG1, U9 PE7, U10 PE14, U13 PH7, U14 PB13, U15 PB14, U16 PD8
part B pins: A1 VSS, A6 VDDLDO, A7 VCAP, A17 VSS, B1 VBAT, B2 VSS, B6 VSS, B14 PA14, C1 PC15-OSC32-OUT, C2 PC14-OSC32-IN, C10 VSS, C13 VSS, C15 PA13, C16 VSS, C17 VDDLDO, D17 VCAP, E1 NC, E6 VDD, E7 PDR_ON, E8 BOOT0, E9 VDD, E11 VDD, F1 NC, F2 VSS, F5 VDD, F17 VDD33USB, G2 NC, G5 VDD, G7 VSS, G8 VSS, G9 VSS, G10 VSS, G11 VSS, G13 VDD, G16 VSS, G17 VDD50USB, H5 VDD, H7 VSS, H8 VSS, H9 VSS, H10 VSS, H11 VSS, H13 VDD, J1 PH1-OSC-OUT, J2 PH0-OSC-IN, J3 VSS, J7 VSS, J8 VSS, J9 VSS, J10 VSS, J11 VSS, J13 VDD, J16 VSS, J17 VSS, K1 NRST, K5 VDD, K7 VSS, K8 VSS, K9 VSS, K10 VSS, K11 VSS, K13 VDD, K15 VSS, K16 NC, K17 NC, L1 VDDA, L5 VDD, L7 VSS, L8 VSS, L9 VSS, L10 VSS, L11 VSS, L13 VDD, L15 VSS, L16 NC, L17 NC, M1 VREF+, M5 VDD, M13 VDD, M15 VSS, M16 NC, M17 NC, N1 VREF-, N7 VDD, N8 VDD, N10 VDD, N11 VDD, N12 VDD, N16 VSS, N17 NC, P1 VSSA, P17 VDD, R4 VSS, R8 VSS, T12 VSS, U1 VSS, U11 VCAP, U12 VDDLDO, U17 VSS

## SWD Header 5x2
designator P?  value SWD  (hidden comment: SWD Header 5x2)  (no BOM)
SWD 调试接口 2x5pin 双排针; Revision: V1.0
footprint HDR2.54-LI-2x5P (双排排针，5x2脚)
pins: 1 RST, 2 SWCLK, 3 SWIM, 4 SWDIO, 5 GND, 6 GND, 7 VCC, 8 VCC, 9 NC, 10 NC